# Altium schematic symbol library MySchLib.SchLib: 286 symbols (part 1 of 5)
Pins are listed as number, name and electrical type; pins without a type are passive.

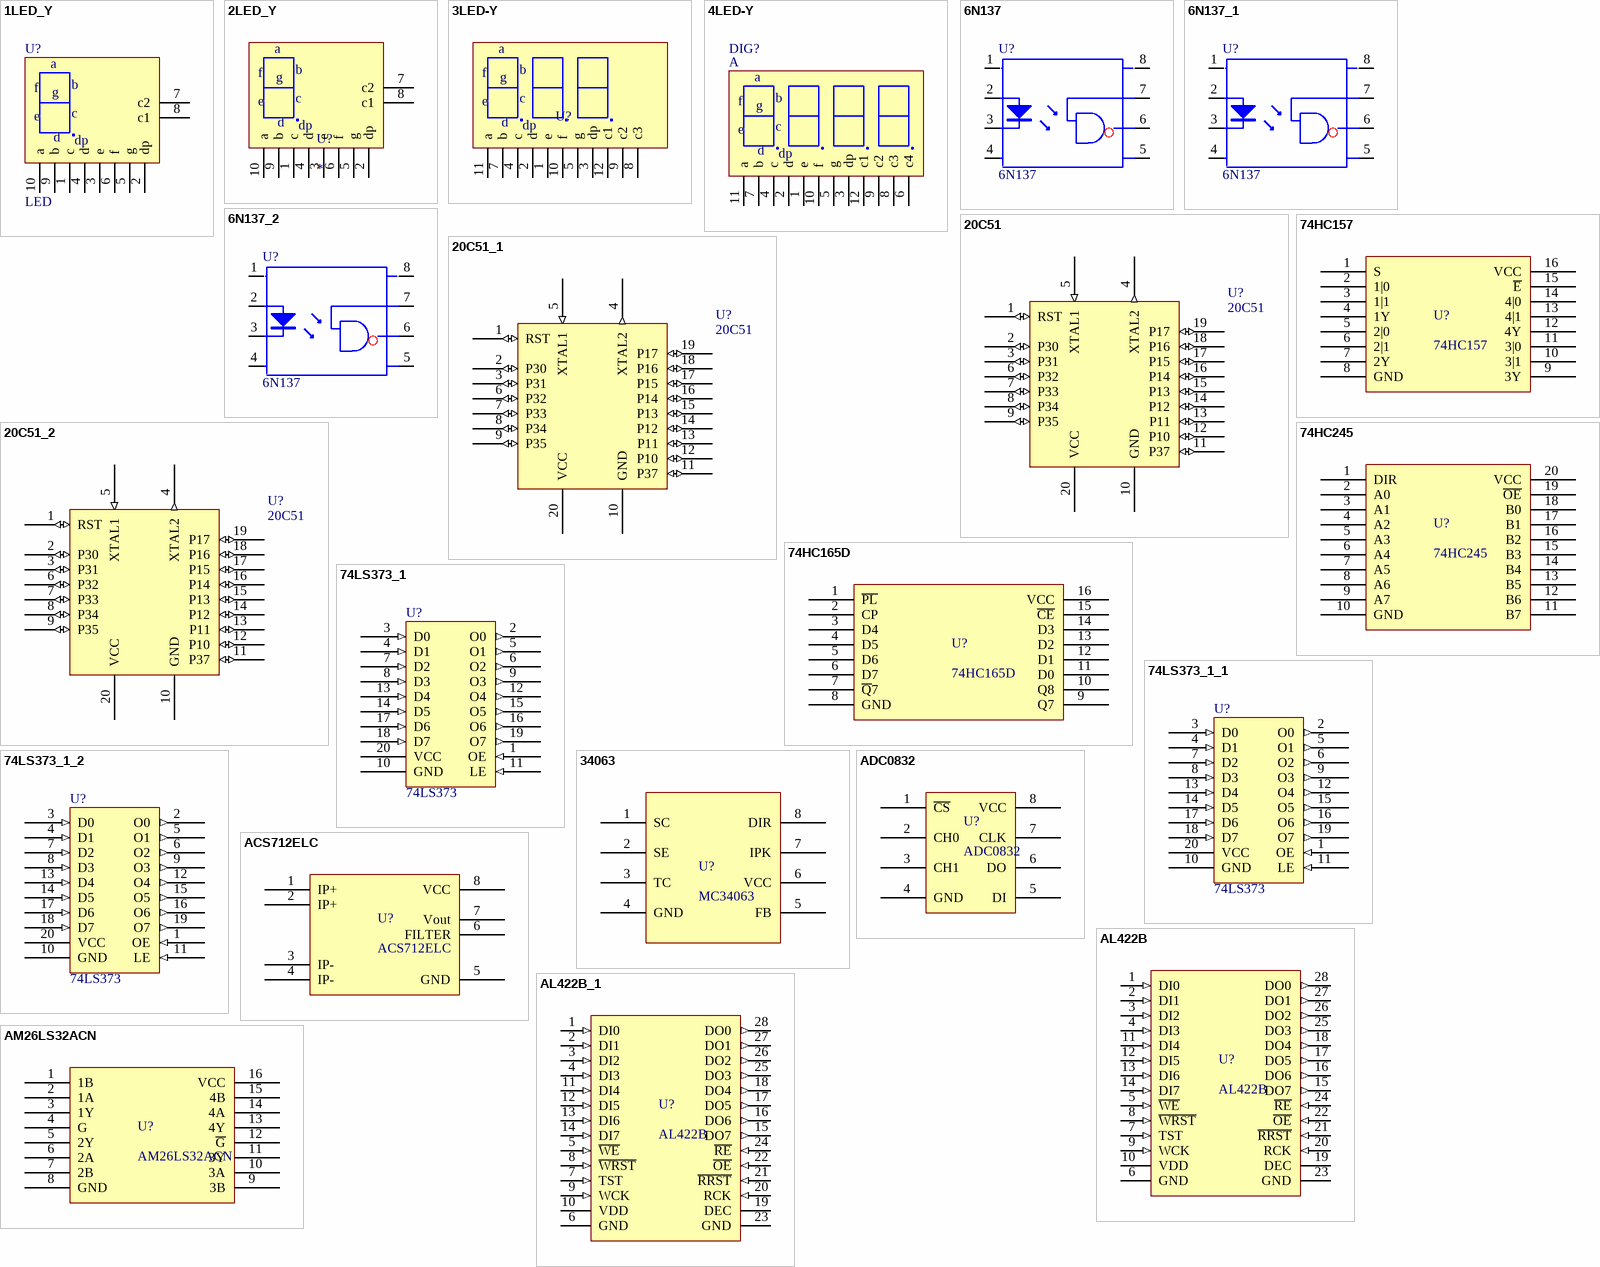
[diagram p0: symbols 1LED_Y to AM26LS32ACN]

## 1LED_Y
designator U?, comment LED
HX210561K / HX220561K
footprint LED-DIP10S-036
pins: 1 c, 2 dp, 3 e, 4 d, 5 g, 6 f, 7 c2, 8 c1, 9 b, 10 a

## 2LED_Y
designator U?
footprint LED2-DIP10S-056 (Footprint not found)
pins: 1 c, 2 dp, 3 e, 4 d, 5 g, 6 f, 7 c2, 8 c1, 9 b, 10 a

## 3LED-Y
designator U?
pins: 1 e, 2 d, 3 dp, 4 c, 5 g, 6 c4 hidden, 7 b, 8 c3, 9 c2, 10 f, 11 a, 12 c1

## 4LED-Y
designator DIG?, comment A
SR80561,SR70561
footprint LED-DIP12S-056
footprint LED-DIP12S-036
pins: 1 e, 2 d, 3 dp, 4 c, 5 g, 6 c4, 7 b, 8 c3, 9 c2, 10 f, 11 a, 12 c1
2 alternate drawings of the same symbol

## 6N137
designator U?
footprint PDIP8
pins: 1 A, 2 A, 3 K, 4 A, 5 A, 6 E, 7 C, 8 A
2 alternate drawings of the same symbol

## 6N137_1
designator U?, comment 6N137
footprint PDIP8
pins: 1 A, 2 A, 3 K, 4 A, 5 A, 6 E, 7 C, 8 A
2 alternate drawings of the same symbol

## 6N137_2
designator U?, comment 6N137
footprint PDIP8
pins: 1 A, 2 A, 3 K, 4 A, 5 A, 6 E, 7 C, 8 A
2 alternate drawings of the same symbol

## 20C51
designator U?
89C2051
footprint DIP20
footprint SOP-20
pins: 1 RST (io), 2 P30 (io), 3 P31 (io), 4 XTAL2 (out), 5 XTAL1 (in), 6 P32 (io), 7 P33 (io), 8 P34 (io), 9 P35 (io), 10 GND (power), 11 P37 (io), 12 P10 (io), 13 P11 (io), 14 P12 (io), 15 P13 (io), 16 P14 (io), 17 P15 (io), 18 P16 (io), 19 P17 (io), 20 VCC (power)
2 alternate drawings of the same symbol

## 20C51_1
designator U?, comment 20C51
89C2051
footprint DIP20
footprint SOP-20
pins: 1 RST (io), 2 P30 (io), 3 P31 (io), 4 XTAL2 (out), 5 XTAL1 (in), 6 P32 (io), 7 P33 (io), 8 P34 (io), 9 P35 (io), 10 GND (power), 11 P37 (io), 12 P10 (io), 13 P11 (io), 14 P12 (io), 15 P13 (io), 16 P14 (io), 17 P15 (io), 18 P16 (io), 19 P17 (io), 20 VCC (power)
2 alternate drawings of the same symbol

## 20C51_2
designator U?, comment 20C51
89C2051
footprint DIP20
footprint SOP-20
pins: 1 RST (io), 2 P30 (io), 3 P31 (io), 4 XTAL2 (out), 5 XTAL1 (in), 6 P32 (io), 7 P33 (io), 8 P34 (io), 9 P35 (io), 10 GND (power), 11 P37 (io), 12 P10 (io), 13 P11 (io), 14 P12 (io), 15 P13 (io), 16 P14 (io), 17 P15 (io), 18 P16 (io), 19 P17 (io), 20 VCC (power)
2 alternate drawings of the same symbol

## 74HC157
designator U?
footprint SSOP16
pins: 1 S, 2 1|0, 3 1|1, 4 1Y, 5 2|0, 6 2|1, 7 2Y, 8 GND, 9 3Y, 10 3|1, 11 3|0, 12 4Y, 13 4|1, 14 4|0, 15 ~{E}, 16 VCC

## 74HC165D
designator U?
footprint SOP-16 (FOR H1102NL)
pins: 1 ~{PL}, 2 CP, 3 D4, 4 D5, 5 D6, 6 D7, 7 ~{Q}7, 8 GND, 9 Q7, 10 Q8, 11 D0, 12 D1, 13 D2, 14 D3, 15 ~{CE}, 16 VCC

## 74HC245
designator U?
footprint SSOP20
footprint TSSOP20 (Footprint not found)
pins: 1 DIR, 2 A0, 3 A1, 4 A2, 5 A3, 6 A4, 7 A5, 8 A6, 9 A7, 10 GND, 11 B7, 12 B6, 13 B5, 14 B4, 15 B3, 16 B2, 17 B1, 18 B0, 19 ~{OE}, 20 VCC

## 74LS373_1
designator U?, comment 74LS373
footprint SOP-20
pins: 1 OE (in), 2 O0 (out), 3 D0 (in), 4 D1 (in), 5 O1 (out), 6 O2 (out), 7 D2 (in), 8 D3 (in), 9 O3 (out), 10 GND (power), 11 LE (in), 12 O4 (out), 13 D4 (in), 14 D5 (in), 15 O5 (out), 16 O6 (out), 17 D6 (in), 18 D7 (in), 19 O7 (out), 20 VCC (power)
2 alternate drawings of the same symbol

## 74LS373_1_1
designator U?, comment 74LS373
footprint SOP-20
pins: 1 OE (in), 2 O0 (out), 3 D0 (in), 4 D1 (in), 5 O1 (out), 6 O2 (out), 7 D2 (in), 8 D3 (in), 9 O3 (out), 10 GND (power), 11 LE (in), 12 O4 (out), 13 D4 (in), 14 D5 (in), 15 O5 (out), 16 O6 (out), 17 D6 (in), 18 D7 (in), 19 O7 (out), 20 VCC (power)
2 alternate drawings of the same symbol

## 74LS373_1_2
designator U?, comment 74LS373
footprint SOP-20
pins: 1 OE (in), 2 O0 (out), 3 D0 (in), 4 D1 (in), 5 O1 (out), 6 O2 (out), 7 D2 (in), 8 D3 (in), 9 O3 (out), 10 GND (power), 11 LE (in), 12 O4 (out), 13 D4 (in), 14 D5 (in), 15 O5 (out), 16 O6 (out), 17 D6 (in), 18 D7 (in), 19 O7 (out), 20 VCC (power)
2 alternate drawings of the same symbol

## 34063
designator U?, comment MC34063
footprint PDIP8
pins: 1 SC, 2 SE, 3 TC, 4 GND, 5 FB, 6 VCC, 7 IPK, 8 DIR

## ACS712ELC
designator U?
footprint SOIC8 (Footprint not found)
footprint SOP-8
pins: 1 IP+, 2 IP+, 3 IP-, 4 IP-, 5 GND, 6 FILTER, 7 Vout, 8 VCC

## ADC0832
designator U?
footprint DIP-8
pins: 1 ~{CS}, 2 CH0, 3 CH1, 4 GND, 5 DI, 6 DO, 7 CLK, 8 VCC

## AL422B
designator U?
footprint SOP-28 (Footprint not found)
pins: 1 DI0 (in), 2 DI1 (in), 3 DI2 (in), 4 DI3 (in), 5 ~{WE} (in), 6 GND (power), 7 TST (in), 8 ~{WRST} (in), 9 WCK (in), 10 VDD (power), 11 DI4 (in), 12 DI5 (in), 13 DI6 (in), 14 DI7 (in), 15 DO7 (out), 16 DO6 (out), 17 DO5 (out), 18 DO4 (out), 19 DEC (power), 20 RCK (in), 21 ~{RRST} (in), 22 ~{OE} (in), 23 GND (power), 24 ~{RE} (in), 25 DO3 (out), 26 DO2 (out), 27 DO1 (out), 28 DO0 (out)

## AL422B_1
designator U?, comment AL422B
footprint SOP-28 (Footprint not found)
pins: 1 DI0 (in), 2 DI1 (in), 3 DI2 (in), 4 DI3 (in), 5 ~{WE} (in), 6 GND (power), 7 TST (in), 8 ~{WRST} (in), 9 WCK (in), 10 VDD (power), 11 DI4 (in), 12 DI5 (in), 13 DI6 (in), 14 DI7 (in), 15 DO7 (out), 16 DO6 (out), 17 DO5 (out), 18 DO4 (out), 19 DEC (power), 20 RCK (in), 21 ~{RRST} (in), 22 ~{OE} (in), 23 GND (power), 24 ~{RE} (in), 25 DO3 (out), 26 DO2 (out), 27 DO1 (out), 28 DO0 (out)

## AM26LS32ACN
designator U?
pins: 1 1B, 2 1A, 3 1Y, 4 G, 5 2Y, 6 2A, 7 2B, 8 GND, 9 3B, 10 3A, 11 3Y, 12 ~{G}, 13 4Y, 14 4A, 15 4B, 16 VCC

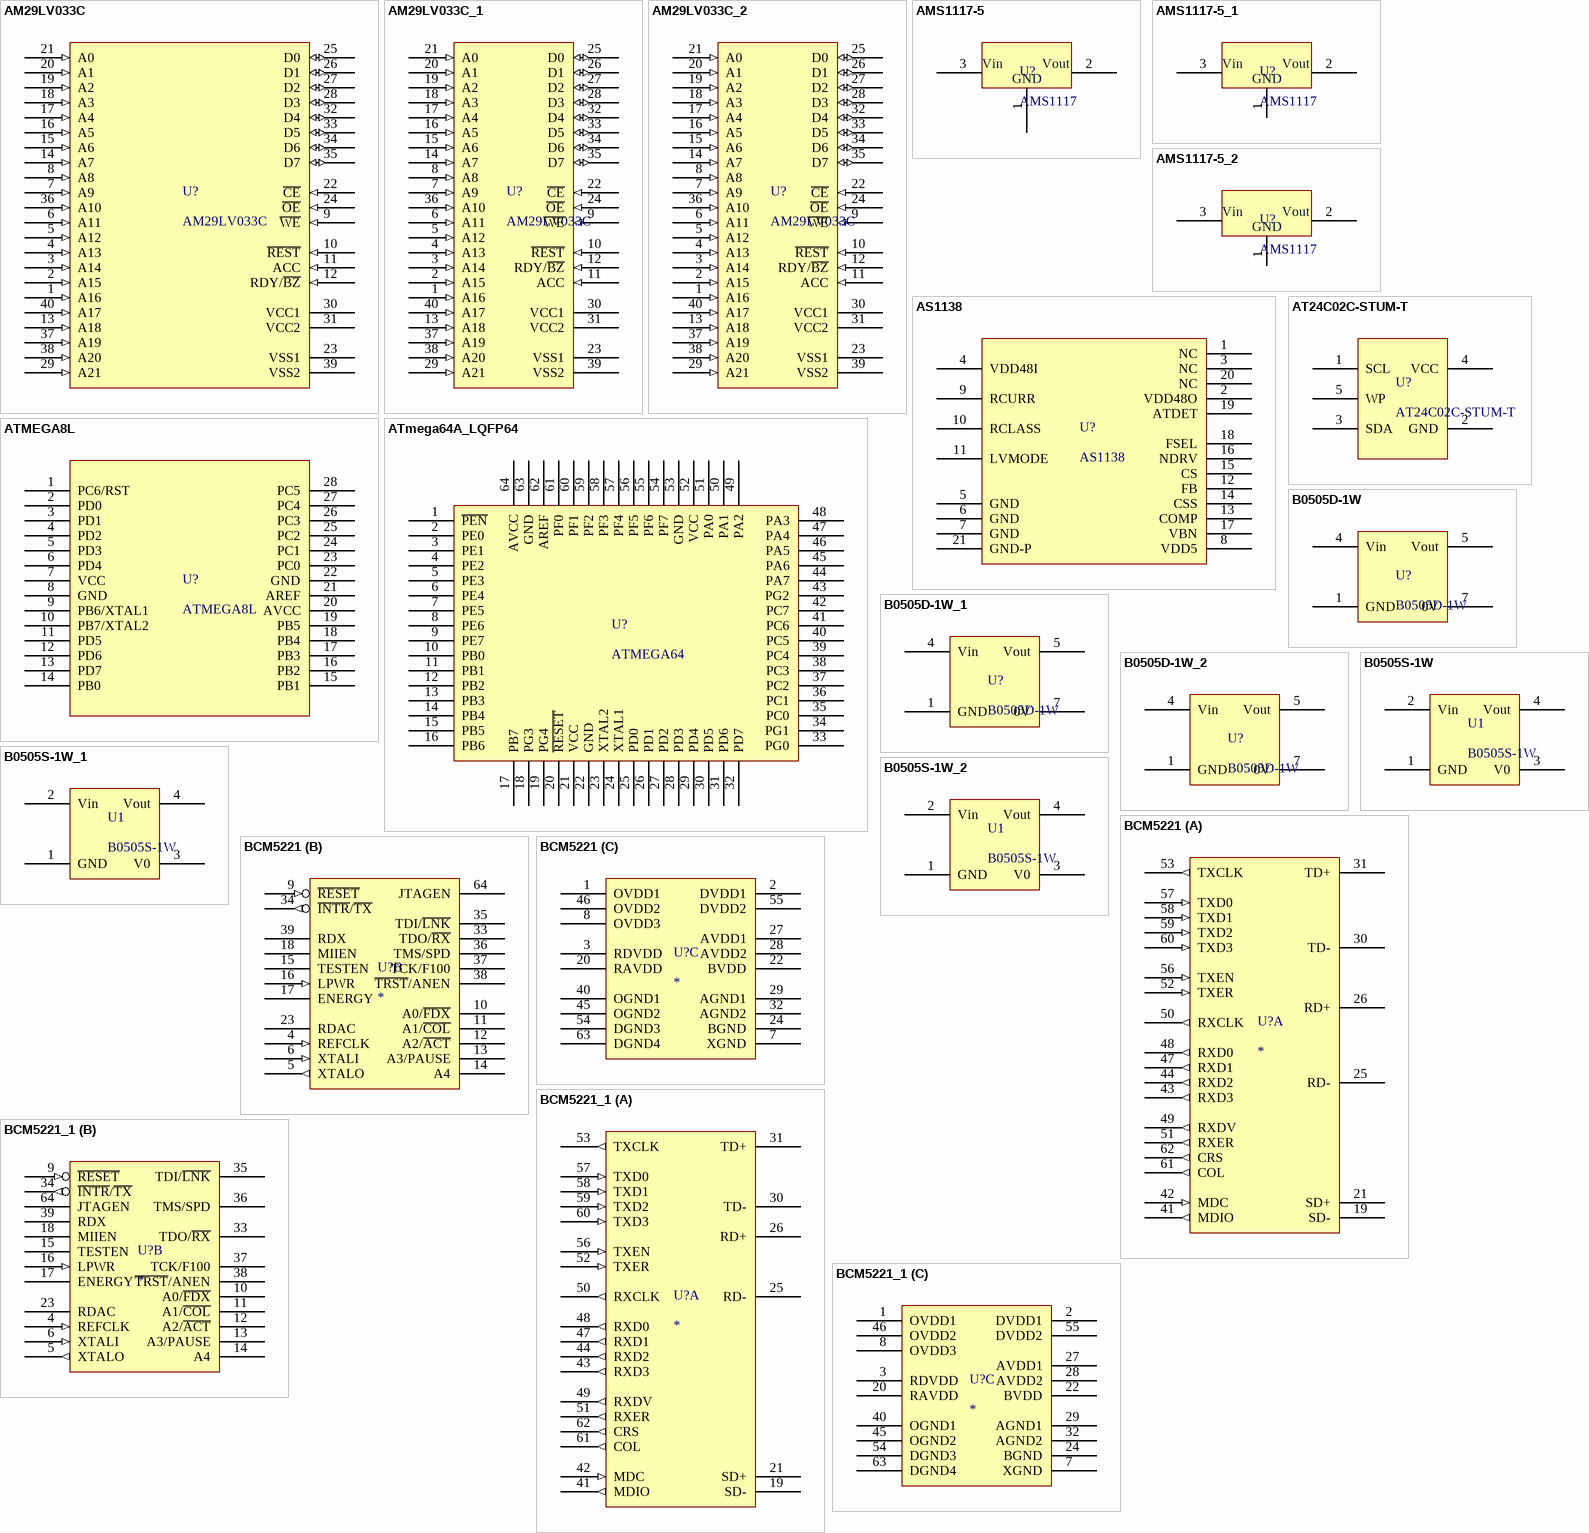
[diagram p1: symbols AM29LV033C to BCM5221_1]

## AM29LV033C
designator U?
footprint TS040 (Footprint not found)
footprint TSR040 (Footprint not found)
footprint FBD063 (Footprint not found)
pins: 1 A16 (in), 2 A15 (in), 3 A14 (in), 4 A13 (in), 5 A12 (in), 6 A11 (in), 7 A9 (in), 8 A8 (in), 9 ~{WE} (in), 10 ~{REST} (in), 11 ACC (in), 12 RDY/~{BZ} (in), 13 A18 (in), 14 A7 (in), 15 A6 (in), 16 A5 (in), 17 A4 (in), 18 A3 (in), 19 A2 (in), 20 A1 (in), 21 A0 (in), 22 ~{CE} (in), 23 VSS1 (power), 24 ~{OE} (in), 25 D0 (io), 26 D1 (io), 27 D2 (io), 28 D3 (io), 29 A21 (in), 30 VCC1 (power), 31 VCC2 (power), 32 D4 (io), 33 D5 (io), 34 D6 (io), 35 D7 (io), 36 A10 (in), 37 A19 (in), 38 A20 (in), 39 VSS2 (power), 40 A17 (in)

## AM29LV033C_1
designator U?, comment AM29LV033C
footprint TS040 (Footprint not found)
footprint TSR040 (Footprint not found)
footprint FBD063 (Footprint not found)
pins: 1 A16 (in), 2 A15 (in), 3 A14 (in), 4 A13 (in), 5 A12 (in), 6 A11 (in), 7 A9 (in), 8 A8 (in), 9 ~{WE} (in), 10 ~{REST} (in), 11 ACC (in), 12 RDY/~{BZ} (in), 13 A18 (in), 14 A7 (in), 15 A6 (in), 16 A5 (in), 17 A4 (in), 18 A3 (in), 19 A2 (in), 20 A1 (in), 21 A0 (in), 22 ~{CE} (in), 23 VSS1 (power), 24 ~{OE} (in), 25 D0 (io), 26 D1 (io), 27 D2 (io), 28 D3 (io), 29 A21 (in), 30 VCC1 (power), 31 VCC2 (power), 32 D4 (io), 33 D5 (io), 34 D6 (io), 35 D7 (io), 36 A10 (in), 37 A19 (in), 38 A20 (in), 39 VSS2 (power), 40 A17 (in)

## AM29LV033C_2
designator U?, comment AM29LV033C
footprint TS040 (Footprint not found)
footprint TSR040 (Footprint not found)
footprint FBD063 (Footprint not found)
pins: 1 A16 (in), 2 A15 (in), 3 A14 (in), 4 A13 (in), 5 A12 (in), 6 A11 (in), 7 A9 (in), 8 A8 (in), 9 ~{WE} (in), 10 ~{REST} (in), 11 ACC (in), 12 RDY/~{BZ} (in), 13 A18 (in), 14 A7 (in), 15 A6 (in), 16 A5 (in), 17 A4 (in), 18 A3 (in), 19 A2 (in), 20 A1 (in), 21 A0 (in), 22 ~{CE} (in), 23 VSS1 (power), 24 ~{OE} (in), 25 D0 (io), 26 D1 (io), 27 D2 (io), 28 D3 (io), 29 A21 (in), 30 VCC1 (power), 31 VCC2 (power), 32 D4 (io), 33 D5 (io), 34 D6 (io), 35 D7 (io), 36 A10 (in), 37 A19 (in), 38 A20 (in), 39 VSS2 (power), 40 A17 (in)

## AMS1117-5
designator U?, comment AMS1117
footprint SOT-223
pins: 1 GND, 2 Vout, 3 Vin

## AMS1117-5_1
designator U?, comment AMS1117
footprint SOT-223
pins: 1 GND, 2 Vout, 3 Vin

## AMS1117-5_2
designator U?, comment AMS1117
footprint SOT-223
pins: 1 GND, 2 Vout, 3 Vin

## AS1138
designator U?
footprint QFN20
pins: 1 NC, 2 VDD48O, 3 NC, 4 VDD48I, 5 GND, 6 GND, 7 GND, 8 VDD5, 9 RCURR, 10 RCLASS, 11 LVMODE, 12 FB, 13 COMP, 14 CSS, 15 CS, 16 NDRV, 17 VBN, 18 FSEL, 19 ATDET, 20 NC, 21 GND-P

## AT24C02C-STUM-T
designator U?
footprint SOT-23-5
pins: 1 SCL, 2 GND, 3 SDA, 4 VCC, 5 WP

## ATMEGA8L
designator U?
footprint PDIP28 (Footprint not found)
pins: 1 PC6/RST, 2 PD0, 3 PD1, 4 PD2, 5 PD3, 6 PD4, 7 VCC, 8 GND, 9 PB6/XTAL1, 10 PB7/XTAL2, 11 PD5, 12 PD6, 13 PD7, 14 PB0, 15 PB1, 16 PB2, 17 PB3, 18 PB4, 19 PB5, 20 AVCC, 21 AREF, 22 GND, 23 PC0, 24 PC1, 25 PC2, 26 PC3, 27 PC4, 28 PC5

## ATmega64A_LQFP64
designator U?, comment ATMEGA64
footprint QUAD64
pins: 1 ~{PEN}, 2 PE0, 3 PE1, 4 PE2, 5 PE3, 6 PE4, 7 PE5, 8 PE6, 9 PE7, 10 PB0, 11 PB1, 12 PB2, 13 PB3, 14 PB4, 15 PB5, 16 PB6, 17 PB7, 18 PG3, 19 PG4, 20 ~{RESET}, 21 VCC, 22 GND, 23 XTAL2, 24 XTAL1, 25 PD0, 26 PD1, 27 PD2, 28 PD3, 29 PD4, 30 PD5, 31 PD6, 32 PD7, 33 PG0, 34 PG1, 35 PC0, 36 PC1, 37 PC2, 38 PC3, 39 PC4, 40 PC5, 41 PC6, 42 PC7, 43 PG2, 44 PA7, 45 PA6, 46 PA5, 47 PA4, 48 PA3, 49 PA2, 50 PA1, 51 PA0, 52 VCC, 53 GND, 54 PF7, 55 PF6, 56 PF5, 57 PF4, 58 PF3, 59 PF2, 60 PF1, 61 PF0, 62 AREF, 63 GND, 64 AVCC

## B0505D-1W
designator U?
footprint B0505D-1W
pins: 1 GND, 4 Vin, 5 Vout, 7 0V

## B0505D-1W_1
designator U?, comment B0505D-1W
footprint B0505D-1W
pins: 1 GND, 4 Vin, 5 Vout, 7 0V

## B0505D-1W_2
designator U?, comment B0505D-1W
footprint B0505D-1W
pins: 1 GND, 4 Vin, 5 Vout, 7 0V

## B0505S-1W
designator U1
footprint B0505S-1W
pins: 1 GND, 2 Vin, 3 V0, 4 Vout

## B0505S-1W_1
designator U1, comment B0505S-1W
footprint B0505S-1W
pins: 1 GND, 2 Vin, 3 V0, 4 Vout

## B0505S-1W_2
designator U1, comment B0505S-1W
footprint B0505S-1W
pins: 1 GND, 2 Vin, 3 V0, 4 Vout

## BCM5221
designator U?
footprint TQFP-64 (Footprint not found)
part A pins: 19 SD-, 21 SD+, 25 RD-, 26 RD+, 30 TD-, 31 TD+, 41 MDIO (out), 42 MDC (in), 43 RXD3 (out), 44 RXD2 (out), 47 RXD1 (out), 48 RXD0 (out), 49 RXDV (out), 50 RXCLK (out), 51 RXER (out), 52 TXER (in), 53 TXCLK (out), 56 TXEN (in), 57 TXD0 (in), 58 TXD1 (in), 59 TXD2 (in), 60 TXD3 (in), 61 COL (out), 62 CRS (out)
part B pins: 4 REFCLK (in), 5 XTALO (out), 6 XTALI (in), 9 ~{RESET} (in), 10 A0/~{FDX}, 11 A1/~{COL}, 12 A2/~{ACT}, 13 A3/PAUSE, 14 A4, 15 TESTEN, 16 LPWR (in), 17 ENERGY, 18 MIIEN, 23 RDAC, 33 TDO/~{RX}, 34 ~{INTR}/~{TX} (out), 35 TDI/~{LNK}, 36 TMS/SPD, 37 TCK/F100, 38 ~{TRST}/ANEN, 39 RDX, 64 JTAGEN
part C pins: 1 OVDD1 (power), 2 DVDD1 (power), 3 RDVDD (power), 7 XGND (power), 8 OVDD3 (power), 20 RAVDD (power), 22 BVDD (power), 24 BGND (power), 27 AVDD1 (power), 28 AVDD2 (power), 29 AGND1 (power), 32 AGND2 (power), 40 OGND1 (power), 45 OGND2 (power), 46 OVDD2 (power), 54 DGND3 (power), 55 DVDD2 (power), 63 DGND4 (power)

## BCM5221_1
designator U?
footprint TQFP-64 (Footprint not found)
part A pins: 19 SD-, 21 SD+, 25 RD-, 26 RD+, 30 TD-, 31 TD+, 41 MDIO (out), 42 MDC (in), 43 RXD3 (out), 44 RXD2 (out), 47 RXD1 (out), 48 RXD0 (out), 49 RXDV (out), 50 RXCLK (out), 51 RXER (out), 52 TXER (in), 53 TXCLK (out), 56 TXEN (in), 57 TXD0 (in), 58 TXD1 (in), 59 TXD2 (in), 60 TXD3 (in), 61 COL (out), 62 CRS (out)
part B pins: 4 REFCLK (in), 5 XTALO (out), 6 XTALI (in), 9 ~{RESET} (in), 10 A0/~{FDX}, 11 A1/~{COL}, 12 A2/~{ACT}, 13 A3/PAUSE, 14 A4, 15 TESTEN, 16 LPWR (in), 17 ENERGY, 18 MIIEN, 23 RDAC, 33 TDO/~{RX}, 34 ~{INTR}/~{TX} (out), 35 TDI/~{LNK}, 36 TMS/SPD, 37 TCK/F100, 38 ~{TRST}/ANEN, 39 RDX, 64 JTAGEN
part C pins: 1 OVDD1 (power), 2 DVDD1 (power), 3 RDVDD (power), 7 XGND (power), 8 OVDD3 (power), 20 RAVDD (power), 22 BVDD (power), 24 BGND (power), 27 AVDD1 (power), 28 AVDD2 (power), 29 AGND1 (power), 32 AGND2 (power), 40 OGND1 (power), 45 OGND2 (power), 46 OVDD2 (power), 54 DGND3 (power), 55 DVDD2 (power), 63 DGND4 (power)

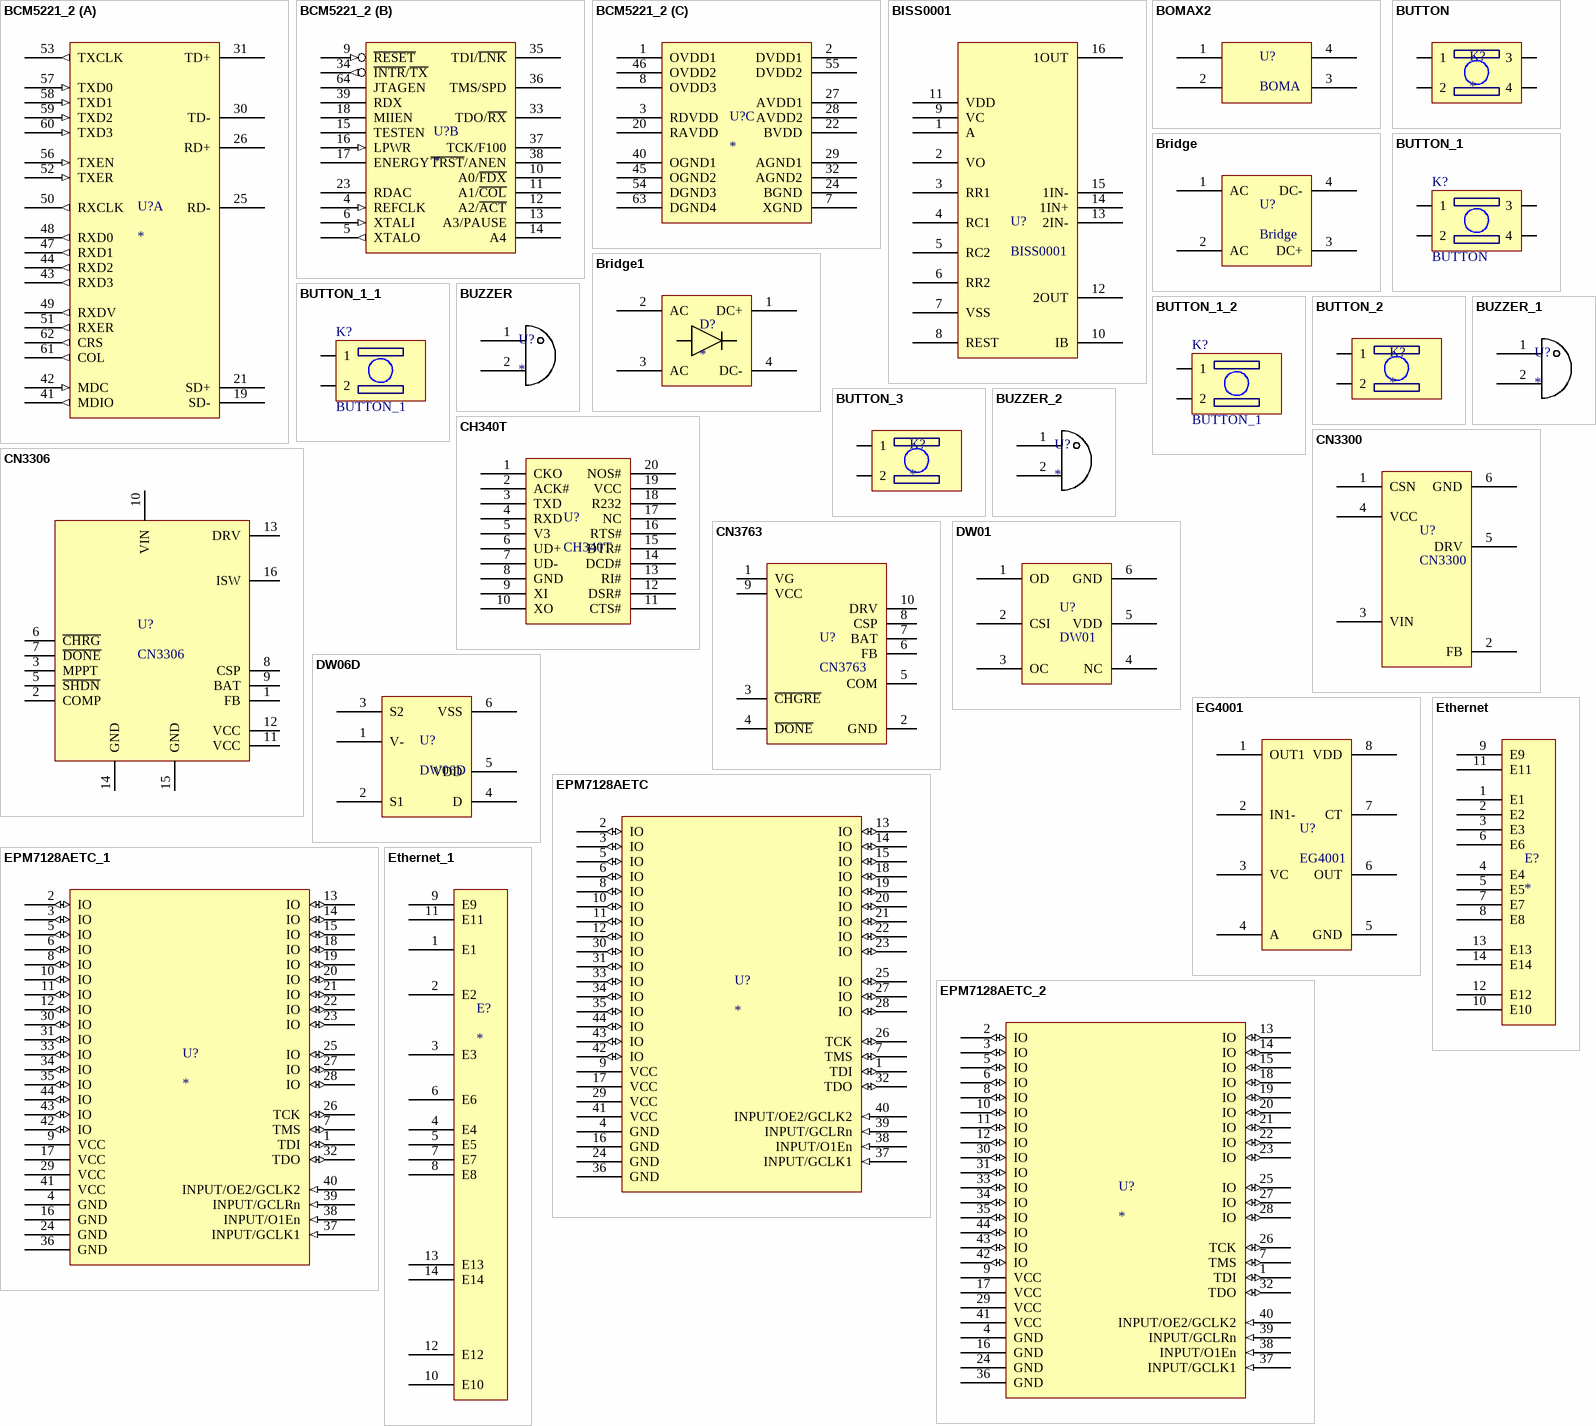
[diagram p2: symbols BCM5221_2 to Ethernet_1]

## BCM5221_2
designator U?
footprint TQFP-64 (Footprint not found)
part A pins: 19 SD-, 21 SD+, 25 RD-, 26 RD+, 30 TD-, 31 TD+, 41 MDIO (out), 42 MDC (in), 43 RXD3 (out), 44 RXD2 (out), 47 RXD1 (out), 48 RXD0 (out), 49 RXDV (out), 50 RXCLK (out), 51 RXER (out), 52 TXER (in), 53 TXCLK (out), 56 TXEN (in), 57 TXD0 (in), 58 TXD1 (in), 59 TXD2 (in), 60 TXD3 (in), 61 COL (out), 62 CRS (out)
part B pins: 4 REFCLK (in), 5 XTALO (out), 6 XTALI (in), 9 ~{RESET} (in), 10 A0/~{FDX}, 11 A1/~{COL}, 12 A2/~{ACT}, 13 A3/PAUSE, 14 A4, 15 TESTEN, 16 LPWR (in), 17 ENERGY, 18 MIIEN, 23 RDAC, 33 TDO/~{RX}, 34 ~{INTR}/~{TX} (out), 35 TDI/~{LNK}, 36 TMS/SPD, 37 TCK/F100, 38 ~{TRST}/ANEN, 39 RDX, 64 JTAGEN
part C pins: 1 OVDD1 (power), 2 DVDD1 (power), 3 RDVDD (power), 7 XGND (power), 8 OVDD3 (power), 20 RAVDD (power), 22 BVDD (power), 24 BGND (power), 27 AVDD1 (power), 28 AVDD2 (power), 29 AGND1 (power), 32 AGND2 (power), 40 OGND1 (power), 45 OGND2 (power), 46 OVDD2 (power), 54 DGND3 (power), 55 DVDD2 (power), 63 DGND4 (power)

## BISS0001
designator U?
footprint SSOP16
pins: 1 A, 2 VO, 3 RR1, 4 RC1, 5 RC2, 6 RR2, 7 VSS, 8 REST, 9 VC, 10 IB, 11 VDD, 12 2OUT, 13 2IN-, 14 1IN+, 15 1IN-, 16 1OUT

## BOMAX2
designator U?, comment BOMA
footprint DIP4
footprint PDIP4
pins: 1, 2, 3, 4

## Bridge
designator U?
DB157S
footprint BGSOP4
pins: 1 AC, 2 AC, 3 DC+, 4 DC-

## Bridge1
designator D?
KBL608
footprint KBL6
pins: 1 DC+, 2 AC, 3 AC, 4 DC-

## BUTTON
designator K?
footprint BUTTON6-6 (Footprint not found)
pins: 1, 2, 3, 4

## BUTTON_1
designator K?, comment BUTTON
footprint BUTTON6-6 (Footprint not found)
footprint BUTTON1 (Footprint not found)
pins: 1, 2, 3, 4

## BUTTON_1_1
designator K?, comment BUTTON_1
footprint BUTTON6-6 (Footprint not found)
footprint BUTTON1 (Footprint not found)
pins: 1, 2, 3 hidden to 1, 4 hidden to 2

## BUTTON_1_2
designator K?, comment BUTTON_1
footprint BUTTON6-6 (Footprint not found)
footprint BUTTON1 (Footprint not found)
pins: 1, 2, 3 hidden to 1, 4 hidden to 2

## BUTTON_2
designator K?
footprint BUTTON6-6 (Footprint not found)
pins: 1, 2

## BUTTON_3
designator K?
footprint BUTTON6-6 (Footprint not found)
pins: 1, 2

## BUZZER
designator U?
footprint BUZZER-12-7 (Footprint not found)
pins: 1 (power), 2 (power)

## BUZZER_1
designator U?
footprint BUZZER-12-7 (Footprint not found)
pins: 1 (power), 2 (power)

## BUZZER_2
designator U?
footprint BUZZER-12-7 (Footprint not found)
pins: 1 (power), 2 (power)

## CH340T
designator U?
footprint SSOP20
pins: 1 CKO, 2 ACK#, 3 TXD, 4 RXD, 5 V3, 6 UD+, 7 UD-, 8 GND, 9 XI, 10 XO, 11 CTS#, 12 DSR#, 13 RI#, 14 DCD#, 15 DTR#, 16 RTS#, 17 NC, 18 R232, 19 VCC, 20 NOS#

## CN3300
designator U?
footprint SOT-23-6
pins: 1 CSN, 2 FB, 3 VIN, 4 VCC, 5 DRV, 6 GND

## CN3306
designator U?
footprint TSSOP16
pins: 1 FB, 2 COMP, 3 MPPT, 5 ~{SHDN}, 6 ~{CHRG}, 7 ~{DONE}, 8 CSP, 9 BAT, 10 VIN, 11 VCC, 12 VCC, 13 DRV, 14 GND, 15 GND, 16 ISW

## CN3763
designator U?
footprint SSOP10 (Footprint not found)
pins: 1 VG, 2 GND, 3 ~{CHGRE}, 4 ~{DONE}, 5 COM, 6 FB, 7 BAT, 8 CSP, 9 VCC, 10 DRV

## DW01
designator U?
footprint SOT-23-6
pins: 1 OD, 2 CSI, 3 OC, 4 NC, 5 VDD, 6 GND

## DW06D
designator U?
footprint SOT-23-6
pins: 1 V-, 2 S1, 3 S2, 4 D, 5 VDD, 6 VSS

## EG4001
designator U?
footprint SOP-8
pins: 1 OUT1, 2 IN1-, 3 VC, 4 A, 5 GND, 6 OUT, 7 CT, 8 VDD

## EPM7128AETC
designator U?
footprint TQFP-44 (Footprint not found)
footprint PLCC-44 (Footprint not found)
pins: 1 TDI (io), 2 IO (io), 3 IO (io), 4 GND (power), 5 IO (io), 6 IO (io), 7 TMS (io), 8 IO (io), 9 VCC (power), 10 IO (io), 11 IO (io), 12 IO (io), 13 IO (io), 14 IO (io), 15 IO (io), 16 GND (power), 17 VCC (power), 18 IO (io), 19 IO (io), 20 IO (io), 21 IO (io), 22 IO (io), 23 IO (io), 24 GND (power), 25 IO (io), 26 TCK (io), 27 IO (io), 28 IO (io), 29 VCC (power), 30 IO (io), 31 IO (io), 32 TDO (io), 33 IO (io), 34 IO (io), 35 IO (io), 36 GND (power), 37 INPUT/GCLK1 (in), 38 INPUT/O1En (in), 39 INPUT/GCLRn (in), 40 INPUT/OE2/GCLK2 (in), 41 VCC (power), 42 IO (io), 43 IO (io), 44 IO (io)

## EPM7128AETC_1
designator U?
footprint TQFP-44 (Footprint not found)
footprint PLCC-44 (Footprint not found)
pins: 1 TDI (io), 2 IO (io), 3 IO (io), 4 GND (power), 5 IO (io), 6 IO (io), 7 TMS (io), 8 IO (io), 9 VCC (power), 10 IO (io), 11 IO (io), 12 IO (io), 13 IO (io), 14 IO (io), 15 IO (io), 16 GND (power), 17 VCC (power), 18 IO (io), 19 IO (io), 20 IO (io), 21 IO (io), 22 IO (io), 23 IO (io), 24 GND (power), 25 IO (io), 26 TCK (io), 27 IO (io), 28 IO (io), 29 VCC (power), 30 IO (io), 31 IO (io), 32 TDO (io), 33 IO (io), 34 IO (io), 35 IO (io), 36 GND (power), 37 INPUT/GCLK1 (in), 38 INPUT/O1En (in), 39 INPUT/GCLRn (in), 40 INPUT/OE2/GCLK2 (in), 41 VCC (power), 42 IO (io), 43 IO (io), 44 IO (io)

## EPM7128AETC_2
designator U?
footprint TQFP-44 (Footprint not found)
footprint PLCC-44 (Footprint not found)
pins: 1 TDI (io), 2 IO (io), 3 IO (io), 4 GND (power), 5 IO (io), 6 IO (io), 7 TMS (io), 8 IO (io), 9 VCC (power), 10 IO (io), 11 IO (io), 12 IO (io), 13 IO (io), 14 IO (io), 15 IO (io), 16 GND (power), 17 VCC (power), 18 IO (io), 19 IO (io), 20 IO (io), 21 IO (io), 22 IO (io), 23 IO (io), 24 GND (power), 25 IO (io), 26 TCK (io), 27 IO (io), 28 IO (io), 29 VCC (power), 30 IO (io), 31 IO (io), 32 TDO (io), 33 IO (io), 34 IO (io), 35 IO (io), 36 GND (power), 37 INPUT/GCLK1 (in), 38 INPUT/O1En (in), 39 INPUT/GCLRn (in), 40 INPUT/OE2/GCLK2 (in), 41 VCC (power), 42 IO (io), 43 IO (io), 44 IO (io)

## Ethernet
designator E?
footprint ETNET14 (Footprint not found)
pins: 1 E1 (power), 2 E2, 3 E3, 4 E4, 5 E5, 6 E6, 7 E7, 8 E8, 9 E9, 10 E10, 11 E11, 12 E12, 13 E13, 14 E14

## Ethernet_1
designator E?
footprint ETNET14 (Footprint not found)
pins: 1 E1 (power), 2 E2, 3 E3, 4 E4, 5 E5, 6 E6, 7 E7, 8 E8, 9 E9, 10 E10, 11 E11, 12 E12, 13 E13, 14 E14

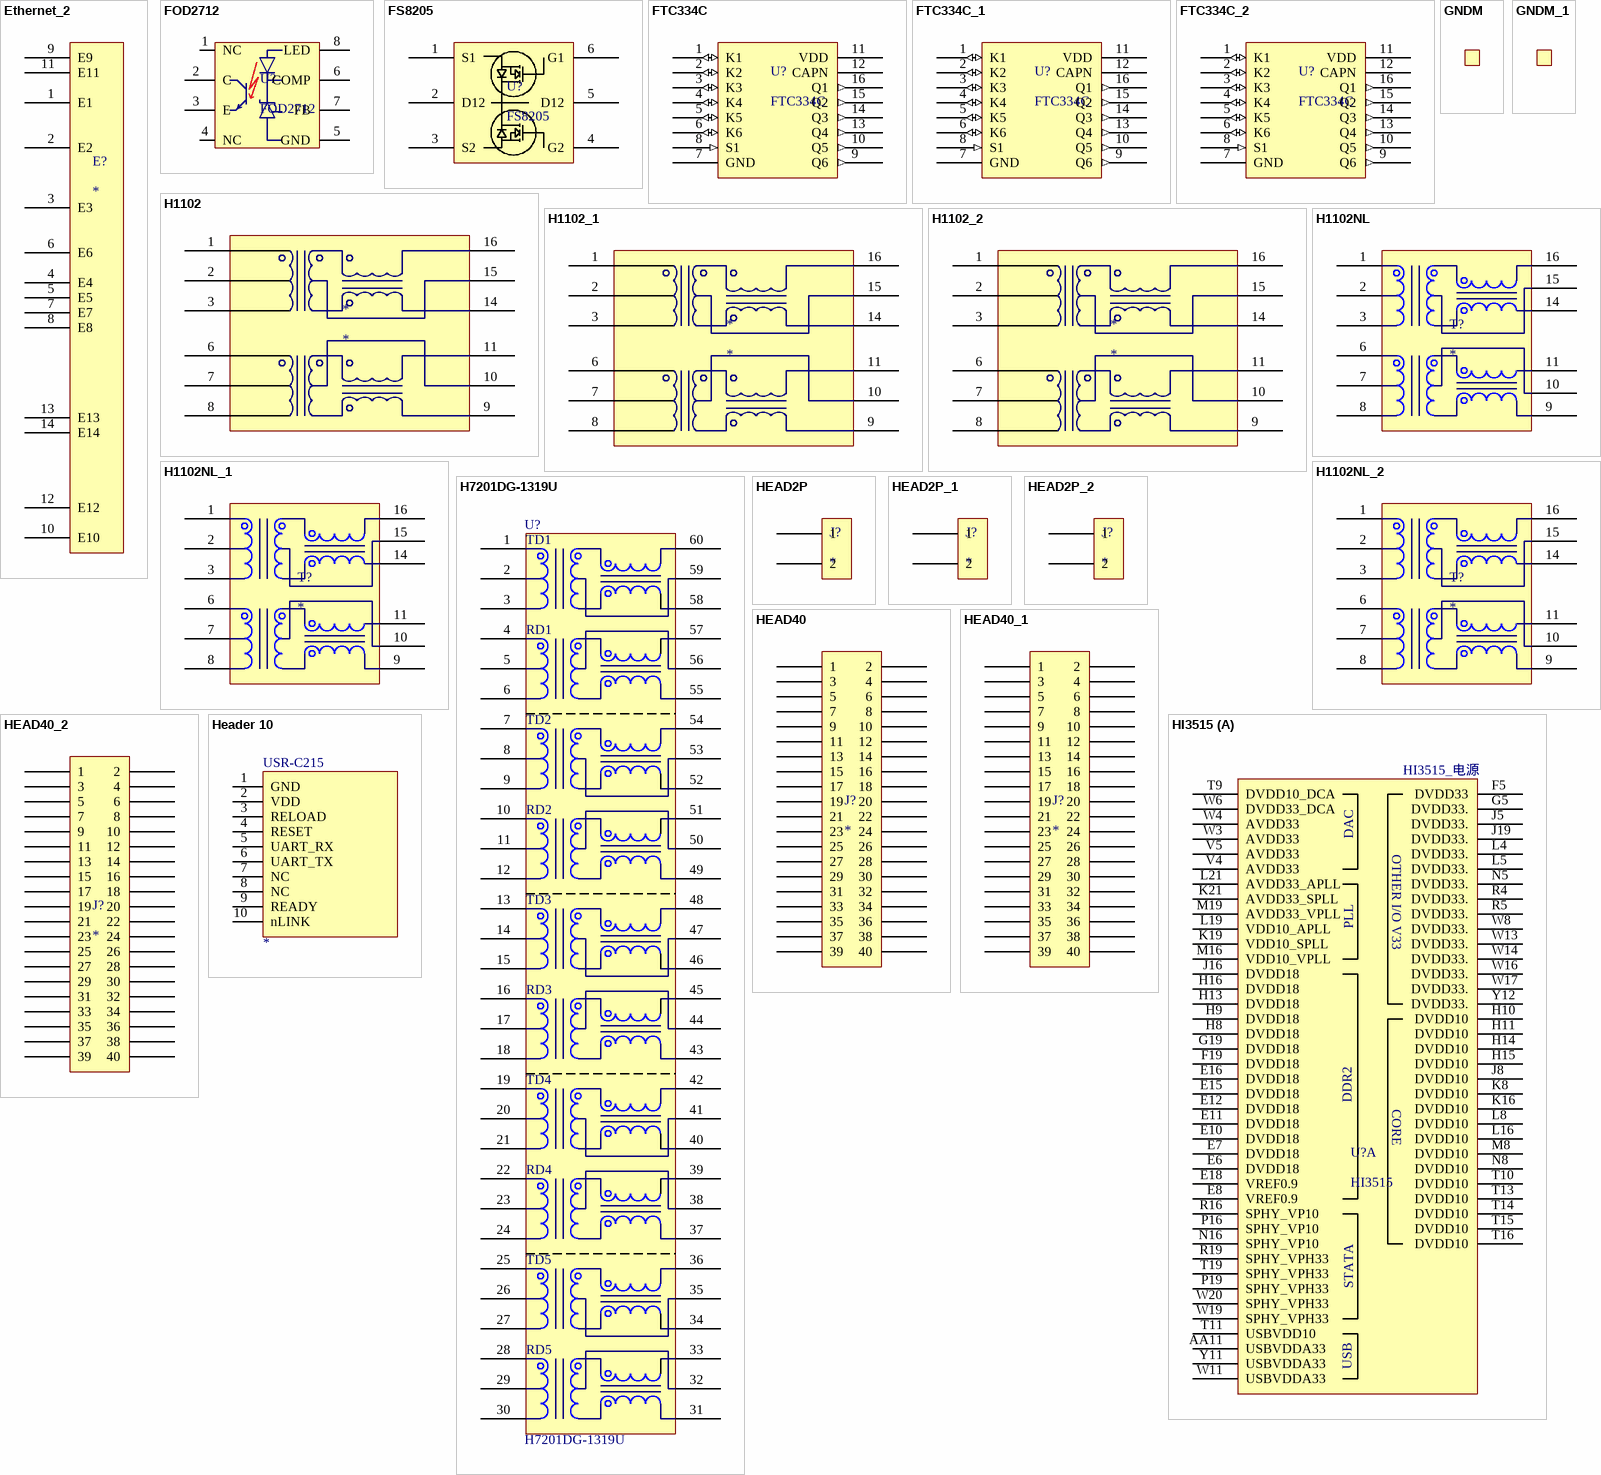
[diagram p3: symbols Ethernet_2 to HI3515]

## Ethernet_2
designator E?
footprint ETNET14 (Footprint not found)
pins: 1 E1 (power), 2 E2, 3 E3, 4 E4, 5 E5, 6 E6, 7 E7, 8 E8, 9 E9, 10 E10, 11 E11, 12 E12, 13 E13, 14 E14

## FOD2712
designator U?
footprint SOP-8
pins: 1 NC, 2 C, 3 E, 4 NC, 5 GND, 6 COMP, 7 FB, 8 LED

## FS8205
designator U?
footprint SOT-23-6
pins: 1 S1, 2 D12, 3 S2, 4 G2, 5 D12, 6 G1

## FTC334C
designator U?
footprint SSOP16
pins: 1 K1 (io), 2 K2 (io), 3 K3 (io), 4 K4 (io), 5 K5 (io), 6 K6 (io), 7 GND (power), 8 S1 (in), 9 Q6 (out), 10 Q5 (out), 11 VDD (power), 12 CAPN, 13 Q4 (out), 14 Q3 (out), 15 Q2 (out), 16 Q1 (out)

## FTC334C_1
designator U?, comment FTC334C
footprint SSOP16
pins: 1 K1 (io), 2 K2 (io), 3 K3 (io), 4 K4 (io), 5 K5 (io), 6 K6 (io), 7 GND (power), 8 S1 (in), 9 Q6 (out), 10 Q5 (out), 11 VDD (power), 12 CAPN, 13 Q4 (out), 14 Q3 (out), 15 Q2 (out), 16 Q1 (out)

## FTC334C_2
designator U?, comment FTC334C
footprint SSOP16
pins: 1 K1 (io), 2 K2 (io), 3 K3 (io), 4 K4 (io), 5 K5 (io), 6 K6 (io), 7 GND (power), 8 S1 (in), 9 Q6 (out), 10 Q5 (out), 11 VDD (power), 12 CAPN, 13 Q4 (out), 14 Q3 (out), 15 Q2 (out), 16 Q1 (out)

## GNDM
designator ?
footprint MARKS1

## GNDM_1
designator ?
footprint MARKS1

## H1102
designator *
pins: 1 D1, 2 D2, 3 D3, 6 D6, 7 D7, 8 D8, 9 D9, 10 D10, 11 D11, 14 D14, 15 D15, 16 D16

## H1102_1
designator *
pins: 1 D1, 2 D2, 3 D3, 6 D6, 7 D7, 8 D8, 9 D9, 10 D10, 11 D11, 14 D14, 15 D15, 16 D16

## H1102_2
designator *
pins: 1 D1, 2 D2, 3 D3, 6 D6, 7 D7, 8 D8, 9 D9, 10 D10, 11 D11, 14 D14, 15 D15, 16 D16

## H1102NL
designator T?
footprint SOP-16 (Footprint not found)
pins: 1 (power), 2 (power), 3 (power), 6 (power), 7 (power), 8 (power), 9 (power), 10 (power), 11 (power), 14 (power), 15 (power), 16 (power)

## H1102NL_1
designator T?
footprint SOP-16 (Footprint not found)
pins: 1 (power), 2 (power), 3 (power), 6 (power), 7 (power), 8 (power), 9 (power), 10 (power), 11 (power), 14 (power), 15 (power), 16 (power)

## H1102NL_2
designator T?
footprint SOP-16 (Footprint not found)
pins: 1 (power), 2 (power), 3 (power), 6 (power), 7 (power), 8 (power), 9 (power), 10 (power), 11 (power), 14 (power), 15 (power), 16 (power)

## H7201DG-1319U
designator U?
footprint H7201DG-1319U
pins: 1 (power), 2 (power), 3 (power), 4, 5, 6, 7, 8, 9, 10, 11, 12, 13, 14, 15, 16, 17, 18, 19, 20, 21, 22, 23, 24, 25, 26, 27, 28, 29, 30, 31, 32, 33, 34, 35, 36, 37, 38, 39, 40, 41, 42, 43, 44, 45, 46, 47, 48, 49, 50, 51, 52, 53, 54, 55, 56, 57, 58, 59, 60
text: TD1; RD1; TD2; RD2; TD3; RD3; TD4; RD4; TD5; RD5

## HEAD2P
designator J?
footprint MKDS15-2
pins: 1, 2

## HEAD2P_1
designator J?
footprint MKDS15-2
pins: 1, 2

## HEAD2P_2
designator J?
footprint MKDS15-2
pins: 1, 2

## HEAD40
designator J?
FOR FFC-40
footprint FFC0.5-40P
pins: 1, 2, 3, 4, 5, 6, 7, 8, 9, 10, 11, 12, 13, 14, 15, 16, 17, 18, 19, 20, 21, 22, 23, 24, 25, 26, 27, 28, 29, 30, 31, 32, 33, 34, 35, 36, 37, 38, 39, 40

## HEAD40_1
designator J?
FOR FFC-40
footprint FFC0.5-40P
pins: 1, 2, 3, 4, 5, 6, 7, 8, 9, 10, 11, 12, 13, 14, 15, 16, 17, 18, 19, 20, 21, 22, 23, 24, 25, 26, 27, 28, 29, 30, 31, 32, 33, 34, 35, 36, 37, 38, 39, 40

## HEAD40_2
designator J?
FOR FFC-40
footprint FFC0.5-40P
pins: 1, 2, 3, 4, 5, 6, 7, 8, 9, 10, 11, 12, 13, 14, 15, 16, 17, 18, 19, 20, 21, 22, 23, 24, 25, 26, 27, 28, 29, 30, 31, 32, 33, 34, 35, 36, 37, 38, 39, 40

## Header 10
designator USR-C215
Header, 10-Pin; LatestRevisionDate: *; LatestRevisionNote: *; Publisher: *
footprint DIP2.0*1-10-M
pins: 1 GND, 2 VDD, 3 RELOAD, 4 RESET, 5 UART_RX, 6 UART_TX, 7 NC, 8 NC, 9 READY, 10 nLINK
2 alternate drawings of the same symbol

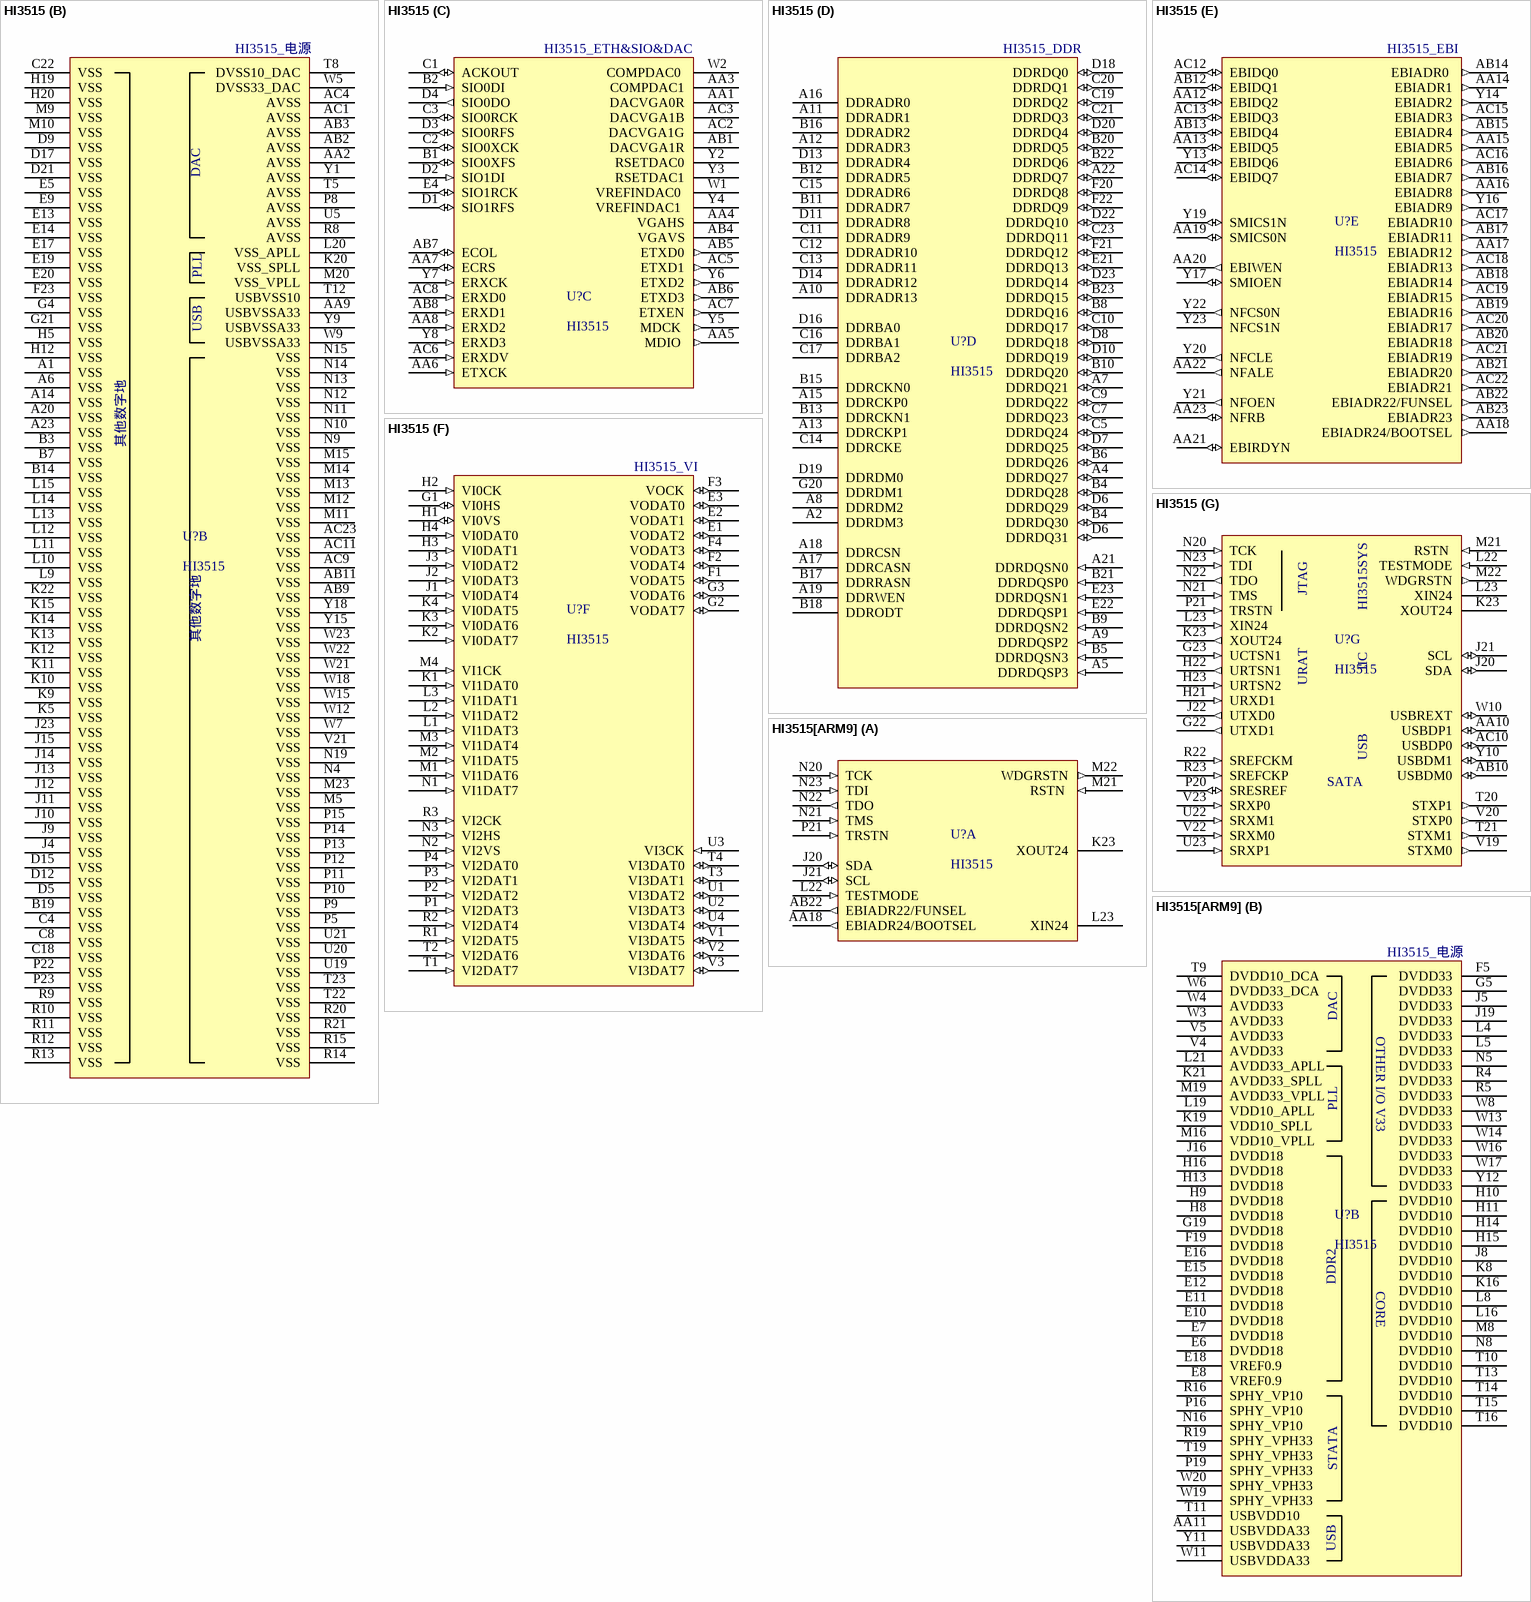
[diagram p4: symbols HI3515 to HI3515[ARM9]]

## HI3515
designator U?
footprint TFBGA441 (Footprint not found)
part A pins: AA11 USBVDDA33 (power) "USB 2.0 HOST模拟电源，外接  3.3V", E6 DVDD18 (power), E7 DVDD18 (power), E8 VREF0.9 (power), E10 DVDD18 (power), E11 DVDD18 (power), E12 DVDD18 (power), E15 DVDD18 (power), E16 DVDD18 (power), E18 VREF0.9 (power), F5 DVDD33 (power), F19 DVDD18 (power), G5 DVDD33. (power), G19 DVDD18 (power), H8 DVDD18 (power), H9 DVDD18 (power), H10 DVDD10 (power), H11 DVDD10 (power), H13 DVDD18 (power), H14 DVDD10 (power), H15 DVDD10 (power), H16 DVDD18 (power), J5 DVDD33. (power), J8 DVDD10 (power), J16 DVDD18 (power), J19 DVDD33. (power), K8 DVDD10 (power), K16 DVDD10 (power), K19 VDD10_SPLL (power), K21 AVDD33_SPLL (power), L4 DVDD33. (power), L5 DVDD33. (power), L8 DVDD10 (power), L16 DVDD10 (power), L19 VDD10_APLL (power), L21 AVDD33_APLL (power), M8 DVDD10 (power), M16 VDD10_VPLL (power), M19 AVDD33_VPLL (power), N5 DVDD33. (power), N8 DVDD10 (power), N16 SPHY_VP10 (power), P16 SPHY_VP10 (power), P19 SPHY_VPH33 (power) "3.3V", R4 DVDD33. (power), R5 DVDD33. (power), R16 SPHY_VP10 (power), R19 SPHY_VPH33 (power) "3.3V", T9 DVDD10_DCA (power), T10 DVDD10 (power), T11 USBVDD10 (power) "USB 2.0 HOST数字电源，外接  1.0V", T13 DVDD10 (power), T14 DVDD10 (power), T15 DVDD10 (power), T16 DVDD10 (power), T19 SPHY_VPH33 (power) "3.3V", V4 AVDD33 (power), V5 AVDD33 (power), W3 AVDD33 (power), W4 AVDD33 (power), W6 DVDD33_DCA (power), W8 DVDD33. (power), W11 USBVDDA33 (power) "USB 2.0 HOST模拟电源，外接  3.3V", W13 DVDD33. (power), W14 DVDD33. (power), W16 DVDD33. (power), W17 DVDD33. (power), W19 SPHY_VPH33 (power) "3.3V", W20 SPHY_VPH33 (power) "3.3V", Y11 USBVDDA33 (power) "USB 2.0 HOST模拟电源，外接  3.3V", Y12 DVDD33. (power)
part B pins: A1 VSS (power) "数字地", A6 VSS (power) "数字地", A14 VSS (power) "数字地", A20 VSS (power) "数字地", A23 VSS (power) "数字地", AA2 AVSS (power), AA9 USBVSSA33 (power), AB2 AVSS (power), AB3 AVSS (power), AB9 VSS (power) "数字地", AB11 VSS (power) "数字地", AC1 AVSS (power), AC4 AVSS (power), AC9 VSS (power) "数字地", AC11 VSS (power) "数字地", AC23 VSS (power) "数字地", B3 VSS (power) "数字地", B7 VSS (power) "数字地", B14 VSS (power) "数字地", B19 VSS (power) "数字地", C4 VSS (power) "数字地", C8 VSS (power) "数字地", C18 VSS (power) "数字地", C22 VSS (power) "数字地", D5 VSS (power) "数字地", D9 VSS (power) "数字地", D12 VSS (power) "数字地", D15 VSS (power) "数字地", D17 VSS (power) "数字地", D21 VSS (power) "数字地", E5 VSS (power) "数字地", E9 VSS (power) "数字地", E13 VSS (power) "数字地", E14 VSS (power) "数字地", E17 VSS (power) "数字地", E19 VSS (power) "数字地", E20 VSS (power) "数字地", F23 VSS (power) "数字地", G4 VSS (power) "数字地", G21 VSS (power) "数字地", H5 VSS (power) "数字地", H12 VSS (power) "数字地", H19 VSS (power) "数字地", H20 VSS (power) "数字地", J4 VSS (power) "数字地", J9 VSS (power) "数字地", J10 VSS (power) "数字地", J11 VSS (power) "数字地", J12 VSS (power) "数字地", J13 VSS (power) "数字地", J14 VSS (power) "数字地", J15 VSS (power) "数字地", J23 VSS (power) "数字地", K5 VSS (power) "数字地", K9 VSS (power) "数字地", K10 VSS (power) "数字地", K11 VSS (power) "数字地", K12 VSS (power) "数字地", K13 VSS (power) "数字地", K14 VSS (power) "数字地", K15 VSS (power) "数字地", K20 VSS_SPLL (power), K22 VSS (power) "数字地", L9 VSS (power) "数字地", L10 VSS (power) "数字地", L11 VSS (power) "数字地", L12 VSS (power) "数字地", L13 VSS (power) "数字地", L14 VSS (power) "数字地", L15 VSS (power) "数字地", L20 VSS_APLL (power), M5 VSS (power) "数字地", M9 VSS (power) "数字地", M10 VSS (power) "数字地", M11 VSS (power) "数字地", M12 VSS (power) "数字地", M13 VSS (power) "数字地", M14 VSS (power) "数字地", M15 VSS (power) "数字地", M20 VSS_VPLL (power), M23 VSS (power) "数字地", N4 VSS (power) "数字地", N9 VSS (power) "数字地", N10 VSS (power) "数字地", N11 VSS (power) "数字地", N12 VSS (power) "数字地", N13 VSS (power) "数字地", N14 VSS (power) "数字地", N15 VSS (power) "数字地", N19 VSS (power) "数字地", P5 VSS (power) "数字地", P8 AVSS (power), P9 VSS (power) "数字地", P10 VSS (power) "数字地", P11 VSS (power) "数字地", P12 VSS (power) "数字地", P13 VSS (power) "数字地", P14 VSS (power) "数字地", P15 VSS (power) "数字地", P22 VSS (power) "数字地", P23 VSS (power) "数字地", R8 AVSS (power), R9 VSS (power) "数字地", R10 VSS (power) "数字地", R11 VSS (power) "数字地", R12 VSS (power) "数字地", R13 VSS (power) "数字地", R14 VSS (power) "数字地", R15 VSS (power) "数字地", R20 VSS (power) "数字地", R21 VSS (power) "数字地", T5 AVSS (power), T8 DVSS10_DAC (power), T12 USBVSS10 (power), T22 VSS (power) "数字地", T23 VSS (power) "数字地", U5 AVSS (power), U19 VSS (power) "数字地", U20 VSS (power) "数字地", U21 VSS (power) "数字地", V21 VSS (power) "数字地", W5 DVSS33_DAC (power), W7 VSS (power) "数字地", W9 USBVSSA33 (power), W12 VSS (power) "数字地", W15 VSS (power) "数字地", W18 VSS (power) "数字地", W21 VSS (power) "数字地", W22 VSS (power) "数字地", W23 VSS (power) "数字地", Y1 AVSS (power), Y9 USBVSSA33 (power), Y15 VSS (power) "数字地", Y18 VSS (power) "数字地"
part C pins: AA1 DACVGA0R "DAC0 的Red 信号或者一路标  清的CVBS 输出，为模拟信  号", AA3 COMPDAC1 "DAC1 的补偿管脚，外接补偿电  容", AA4 VGAHS, AA5 MDIO  (out) "MDIO 接口的输入/ 输出信号", AA6 ETXCK (in) "ETH 发送侧时钟输入", AA7 ECRS  (io) "ETH 载波侦听信号", AA8 ERXD2 (in) "ETH 接收数据DAT", AB1 DACVGA1R "DAC1 的Red 信号，为模拟信  号", AB4 VGAVS, AB5 ETXD0 (out) "ETH 发送数据DAT", AB6 ETXD3 (out) "ETH 发送数据DAT", AB7 ECOL (io) "ETH 碰撞指示信号", AB8 ERXD1 (in) "ETH 接收数据DAT", AC2 DACVGA1G "DAC1 的Green信号，为模拟信  号", AC3 DACVGA1B "DAC1 的Blue 信号输出，为模  拟信号", AC5 ETXD1 (out) "ETH 发送数据DAT", AC6 ERXDV (in) "ETH 接收数据有效", AC7 ETXEN (out) "ETH 发送使能信号", AC8 ERXD0 (in) "ETH 接收数据DAT", B1 SIO0XFS (io) "SIO 接口0 发送侧帧同步信号", B2 SIO0DI (in) "SIO 接口0 数据输入。如不使  用，该管脚可悬空", C1 ACKOUT (io) "SIO 接口的可编程输出时钟，用  于支持低端DAC器件", C2 SIO0XCK (io) "SIO 接口0 发送侧位流时钟", C3 SIO0RCK (io) "SIO 接口0 接收侧位流时钟", D1 SIO1RFS (io) "SIO 接口1 接收侧帧同步信号", D2 SIO1DI (in) "SIO 接口1 数据输入。如不使  用，该管脚可悬空", D3 SIO0RFS (io) "SIO 接口0 接收侧帧同步信号", D4 SIO0DO (out) "SIO 接口0 数据输出", E4 SIO1RCK (io) "SIO 接口1 数SIO 接口1 接收侧位流时钟", W1 VREFINDAC0  "DAC0 的参考电压输入", W2 COMPDAC0  "DAC0 的补偿管脚，外接补偿电  容", Y2 RSETDAC0 "DAC0 的扩展电阻管脚，外接扩  展电阻", Y3 RSETDAC1 "DAC1 的扩展电阻管脚，外接扩  展电阻", Y4 VREFINDAC1  "DAC1 的参考电压输入", Y5 MDCK  (out) "MDIO 接口时钟输出", Y6 ETXD2 (out) "ETH 发送数据DAT", Y7 ERXCK (in) "ETH 接收侧时钟输入", Y8 ERXD3 (in) "ETH 接收数据DAT"
part D pins: A2 DDRDM3 "DDR端口的字节屏蔽信号，对  应数据总线DDRDQ[31:24]", A4 DDRDQ27 (io) "DDR端口的数据信号", A5 DDRDQSP3 (in) "DDR端口的数据选通正向差分  信号，对应数据总线  DDRDQ[31:24]", A7 DDRDQ21 (io) "DDR端口的数据信号", A8 DDRDM2 "DDR端口的字节屏蔽信号，对  应数据总线DDRDQ[23:16]", A9 DDRDQSP2 (in) "DDR端口的数据选通正向差分  信号，对应数据总线  DDRDQ[23:16]", A10 DDRADR13 "DDR端口的地址信号", A11 DDRADR1 "DDR端口的地址信号", A12 DDRADR3 "DDR端口的地址信号", A13 DDRCKP1 "DDR端口的01 组正向差分时  钟", A15 DDRCKP0 "DDR端口的0 组正向差分时  钟", A16 DDRADR0 "DDR端口的地址信号", A17 DDRCASN "DDR端口的列地址选通信号，  低电平有效", A18 DDRCSN "DDR端口输出到DDR2   SDRAM 的片选信号，低电平有  效。", A19 DDRWEN "DDR端口的写使能信号，低电  平有效", A21 DDRDQSN0 (in) "DDR端口的数据选通负向差分  信号，对应数据总线  DDRDQ[7:0]", A22 DDRDQ7 (io) "DDR端口的数据信号", B4 DDRDQ28 (io) "DDR端口的数据信号", B4 DDRDQ30 (io), B5 DDRDQSN3 (in) "DDR端口的数据选通负向差分  信号，对应数据总线  DDRDQ[31:24]。", B6 DDRDQ26 (io) "DDR端口的数据信号", B8 DDRDQ16 (io) "DDR端口的数据信号", B9 DDRDQSN2 (in) "DDR端口的数据选通负向差分  信号，对应数据总线  DDRDQ[23:16]", B10 DDRDQ20 (io) "DDR端口的数据信号", B11 DDRADR7 "DDR端口的地址信号", B12 DDRADR5 "DDR端口的地址信号", B13 DDRCKN1 "DDR端口的1 组负向差分时  钟", B15 DDRCKN0 "DDR端口的0 组负向差分时  钟", B16 DDRADR2 "DDR端口的地址信号", B17 DDRRASN "DDR端口的数据选DDR端口的行地址选通信号，  低电平有效", B18 DDRODT "DDR端口的数据选通正向差分  信号，对应数据总线  DDRDQ[31:24]", B20 DDRDQ5 (io) "DDR端口的数据信号", B21 DDRDQSP0 (in) "DDR端口的数据选通正向差分  信号，对应数据总线  DDRDQ[7:0]", B22 DDRDQ6 (io) "DDR端口的数据信号", B23 DDRDQ15 (io) "DDR端口的数据信号", C5 DDRDQ24 (io) "DDR端口的数据信号", C7 DDRDQ23 (io) "DDR端口的数据信号", C9 DDRDQ22 (io) "DDR端口的数据信号", C10 DDRDQ17 (io) "DDR端口的数据信号", C11 DDRADR9 "DDR端口的地址信号", C12 DDRADR10 "DDR端口的地址信号", C13 DDRADR11 "DDR端口的地址信号", C14 DDRCKE "DDR端口的时钟使能信号，高  电平有效", C15 DDRADR6 "DDR端口的地址信号", C16 DDRBA1 "DDR端口的bank 1 选择信号", C17 DDRBA2 "DDR端口的bank 2 选择信号", C19 DDRDQ2 (io) "DDR端口的数据信号", C20 DDRDQ1 (io) "DDR端口的数据信号", C21 DDRDQ3 (io) "DDR端口的数据信号", C23 DDRDQ11 (io) "DDR端口的数据信号", D6 DDRDQ29 (io) "DDR端口的数据信号", D6 DDRDQ31 (io), D7 DDRDQ25 (io) "DDR端口的数据信号", D8 DDRDQ18 (io) "DDR端口的数据信号", D10 DDRDQ19 (io) "DDR端口的数据信号", D11 DDRADR8 "DDR端口的地址信号", D13 DDRADR4 "DDR端口的地址信号", D14 DDRADR12 "DDR端口的地址信号", D16 DDRBA0 "DDR端口的bank 0 选择信号", D18 DDRDQ0 (io) "DDR端口的数据信号", D19 DDRDM0 "DDR端口输出到DDR2DDR端口的字节屏蔽信号，对  应数据总线DDRDQ[7:0]", D20 DDRDQ4 (io) "DDR端口的数据信号", D22 DDRDQ10 (io) "DDR端口的数据信号", D23 DDRDQ14 (io) "DDR端口的数据信号", E21 DDRDQ13 (io) "DDR端口的数据信号", E22 DDRDQSP1 (in) "DDR端口的数据选通正向差分  信号，对应数据总线  DDRDQ[15:8]", E23 DDRDQSN1 (in) "DDR端口的数据选通负向差分  信号，对应数据总线  DDRDQ[15:8] 。", F20 DDRDQ8 (io) "DDR端口的数据信号", F21 DDRDQ12 (io) "DDR端口的数据信号", F22 DDRDQ9 (io) "DDR端口的数据信号", G20 DDRDM1 "DDR端口的字节屏蔽信号，对  应数据总线DDRDQ[15:8]"
part E pins: AA12 EBIDQ2 (io) "EBI 数据总线", AA13 EBIDQ5 (io) "EBI 数据总线", AA14 EBIADR1 (out) "EBI 地址总线", AA15 EBIADR5 (out) "EBI 地址总线", AA16 EBIADR8 (out) "EBI 地址总线", AA17 EBIADR12 (out) "EBI 地址总线", AA18 EBIADR24/BOOTSEL (out) "EBI 地址总线", AA19 SMICS0N (io) "NAND Flash的空闲指示信号。  0 ：忙；   1 ：空闲。   外接两片NAND Flash时，需要  将两片Flash器件的输出经过线  与后连接到本管脚", AA20 EBIWEN  (out) "SMI 接口的输入Ready 指EBI 写信号，低电平有效", AA21 EBIRDYN (io) "SMI 接口的输入Ready 指示信  号，低电平有效。如不使用，  该管脚可悬空", AA22 NFALE (out) "NAND Flash地址锁存信号", AA23 NFRB (io) "NAND Flash的空闲指示信号。  0 ：忙；   1 ：空闲。   外接两片NAND Flash时，需要  将两片Flash器件的输出经过线  与后连接到本管脚", AB12 EBIDQ1 (io) "EBI 数据总线", AB13 EBIDQ4 (io) "EBI 数据总线", AB14 EBIADR0  (out) "EBI 地址总线", AB15 EBIADR4 (out) "EBI 地址总线", AB16 EBIADR7 (out) "EBI 地址总线", AB17 EBIADR11 (out) "EBI 地址总线", AB18 EBIADR14 (out) "EBI 地址总线", AB19 EBIADR16 (out) "EBI 地址总线", AB20 EBIADR18 (out) "EBI 地址总线", AB21 EBIADR20 (out) "EBI 地址总线", AB22 EBIADR22/FUNSEL (out) "EBI 地址总线", AB23 EBIADR23 (out) "EBI 地址总线", AC12 EBIDQ0 (io) "EBI 数据总线", AC13 EBIDQ3 (io) "EBI 数据总线", AC14 EBIDQ7 (io) "EBI 数据总线", AC15 EBIADR3 (out) "EBI 地址总线", AC16 EBIADR6 (out) "EBI 地址总线", AC17 EBIADR10 (out) "EBI 地址总线", AC18 EBIADR13 (out) "EBI 地址总线", AC19 EBIADR15 (out) "EBI 地址总线", AC20 EBIADR17 (out) "EBI 地址总线", AC21 EBIADR19 (out) "EBI 地址总线", AC22 EBIADR21 (out) "EBI 地址总线", Y13 EBIDQ6 (io) "EBI 数据总线", Y14 EBIADR2 (out) "EBI 地址总线", Y16 EBIADR9 (out) "EBI 地址总线", Y17 SMIOEN (io) "SMI 接口的读使能信号，低电  平有效", Y19 SMICS1N (io) "SMI 片选信号1 ，可配置成低电  平有效或高电平有效，默认为  低电平有效", Y20 NFCLE (out) "NAND Flash命令锁存信号", Y21 NFOEN (out) "NAND Flash的读使能信号，低  电平有效", Y22 NFCS0N (out) "NAND Flash片选信号0 ，低电  平有效。系统支持从该片选启  动", Y23 NFCS1N "NAND Flash片选信号1 ，低电  平有效"
part F pins: E1 VODAT2 (io) "标清图像输出数据DAT", E2 VODAT1 (io) "标清图像输出数据DAT", E3 VODAT0 (io) "标清图像输出数据DAT", F1 VODAT5 (io) "标清图像输出数据DAT", F2 VODAT4 (io) "标清图像输出数据DAT", F3 VOCK (io) "标清图像输出时钟", F4 VODAT3 (io) "标清图像输出数据DAT", G1 VI0HS (io) "VI0 接口的水平同步信号。如不  使用，该管脚可悬空", G2 VODAT7 (io) "标清图像输出数据DAT", G3 VODAT6 (io) "标清图像输出数据DAT", H1 VI0VS (io) "VI0 接口的垂直同步信号。如不  使用，该管脚可悬空", H2 VI0CK (in) "VI0 接口的时钟", H3 VI0DAT1 (in) "VI0 接口的数据DAT", H4 VI0DAT0 (in) "VI0 接口的时钟", J1 VI0DAT4 (in) "VI0 接口的数据DAT", J2 VI0DAT3 (in) "VI0 接口的数据DAT", J3 VI0DAT2 (in) "VI0 接口的数据DAT", K1 VI1DAT0 (in) "VI1 接口的数据DAT", K2 VI0DAT7 (in) "VI0 接口的数据DAT", K3 VI0DAT6 (in) "VI0 接口的数据DAT", K4 VI0DAT5 (in) "VI0 接口的数据DAT", L1 VI1DAT3 (in) "VI1 接口的数据DAT", L2 VI1DAT2 (in) "VI1 接口的数据DAT", L3 VI1DAT1 (in) "VI1 接口的数据DAT", M1 VI1DAT6 (in) "VI1 接口的数据DAT", M2 VI1DAT5 (in) "VI1 接口的数据DAT", M3 VI1DAT4 (in) "VI1 接口的数据DAT", M4 VI1CK  (in) "VI1 接口的时钟", N1 VI1DAT7 (in) "VI1 接口的数据DAT", N2 VI2VS (in) "VI2 接口的垂直同步信号。如不  使用，该管脚可悬空", N3 VI2HS  (in) "VI2 接口的水平同步信号。如不  使用，该管脚可悬空", P1 VI2DAT3 (in) "VI2 接口的时钟", P2 VI2DAT2 (in) "VI2 接口的时钟", P3 VI2DAT1 (in) "VI2 接口的时钟", P4 VI2DAT0 (in) "VI2 接口的时钟", R1 VI2DAT5 (in) "VI2 接口的时钟", R2 VI2DAT4 (in) "VI2 接口的时钟", R3 VI2CK  (in) "VI2 接口的时钟", T1 VI2DAT7 (in) "VI2 接口的时钟", T2 VI2DAT6 (in) "VI2 接口的时钟", T3 VI3DAT1 (io) "VI3 接口的数据DAT0", T4 VI3DAT0 (io) "VI3 接口的数据DAT0", U1 VI3DAT2 (io) "VI3 接口的数据DAT0", U2 VI3DAT3 (io) "VI3 接口的数据DAT0", U3 VI3CK (in) "VI3 接口的时钟", U4 VI3DAT4 (io) "VI3 接口的数据DAT0", V1 VI3DAT5 (io) "VI3 接口的数据DAT0", V2 VI3DAT6 (io) "VI3 接口的数据DAT0", V3 VI3DAT7 (io) "VI3 接口的数据DAT0"
part G pins: AA10 USBDP1 (io) "USB 2.0 HOST端口1 D+差分数  据总线，为模拟信号", AB10 USBDM0 (io) "USB 2.0 HOST端口0 D- 差分数  据总线，为模拟信号", AC10 USBDP0 (io) "USB 2.0 HOST端口0 D+差分数  据总线，为模拟信号", G22 UTXD1 (out) "UART1数据发送", G23 UCTSN1 (in) "SATA 端口1 的正相差分数据输出", H21 URXD1 (in) "UART1数据接收", H22 URTSN1 (out) "UART1的RTSN 信号", H23 URTSN2 (in) "UART0数据接收", J20 SDA (io) "I  2  C 总线数据/ 地址，OD输出。  PCB 上需要外界上拉电阻", J21 SCL (io) "I  2  C 总线时钟，OD输出。PCB  上需要外界上拉电阻", J22 UTXD0 (out) "UART1数据接收", K23 XOUT24 (out) "24MHz晶振时钟输出。如果接  钟振，该管脚悬空", K23 XOUT24, L22 TESTMODE (in) "功能模式和ARM debug 模式选  择。   0 ：正常工作模式，ARM可进  入debug 模式；   1 ：测试模式", L23 XIN24  (in) "24MHz晶振时钟输入", L23 XIN24, M21 RSTN  (in) "系统上电复位信号输入，低电  平有效", M22 WDGRSTN (out) "看门狗复位输出，低电平有  效，OD输出", N20 TCK (in) "JTAG 时钟输入", N21 TMS (in) "JTAG 模式选择输入", N22 TDO  (out) "JTAG 数据输出", N23 TDI  (in) "JTAG 数据输入", P20 SRESREF (io) "SATA 的扩展电阻管脚，外接  190? 扩展电阻", P21 TRSTN (in) "JTAG 复位输入，低电平有效", R22 SREFCKM (in) "SATA 的负相差分时钟输入", R23 SREFCKP (in) "SATA 的正相差分时钟输入", T20 STXP1 (out) "SATA 端口1 的正相差分数据输出", T21 STXM1 (out) "SATA 端口1 的负相差分数据输  出", U22 SRXM1 (in) "SATA 端口1 的负相差分数据输  入", U23 SRXP1 (in) "SATA 端口1 的正相差分数据输  入", V19 STXM0 (out) "SATA 端口0 的负相差分数据输  出", V20 STXP0 (out) "SATA 端口0 的正相差分数据输  出", V22 SRXM0 (in) "SATA 端口0 的负相差分数据输  入", V23 SRXP0 (in) "SATA 端口0 的正相差分数据输  入", W10 USBREXT (io) "USB 2.0 HOST外置电阻连接  端", Y10 USBDM1 (io) "USB 2.0 HOUSB 2.0 HOST端口1 D- 差分数  据总线，为模拟信号"
part A text: HI3515_电源; DAC; OTHER I/O V33; PLL; DDR2; CORE; STATA; USB
part B text: HI3515_电源; DAC; PLL; USB; 其他数字地
part C text: HI3515_ETH&SIO&DAC
part D text: HI3515_DDR
part E text: HI3515_EBI
part F text: HI3515_VI
part G text: JTAG; HI3515SYS; IIC; URAT; USB; SATA

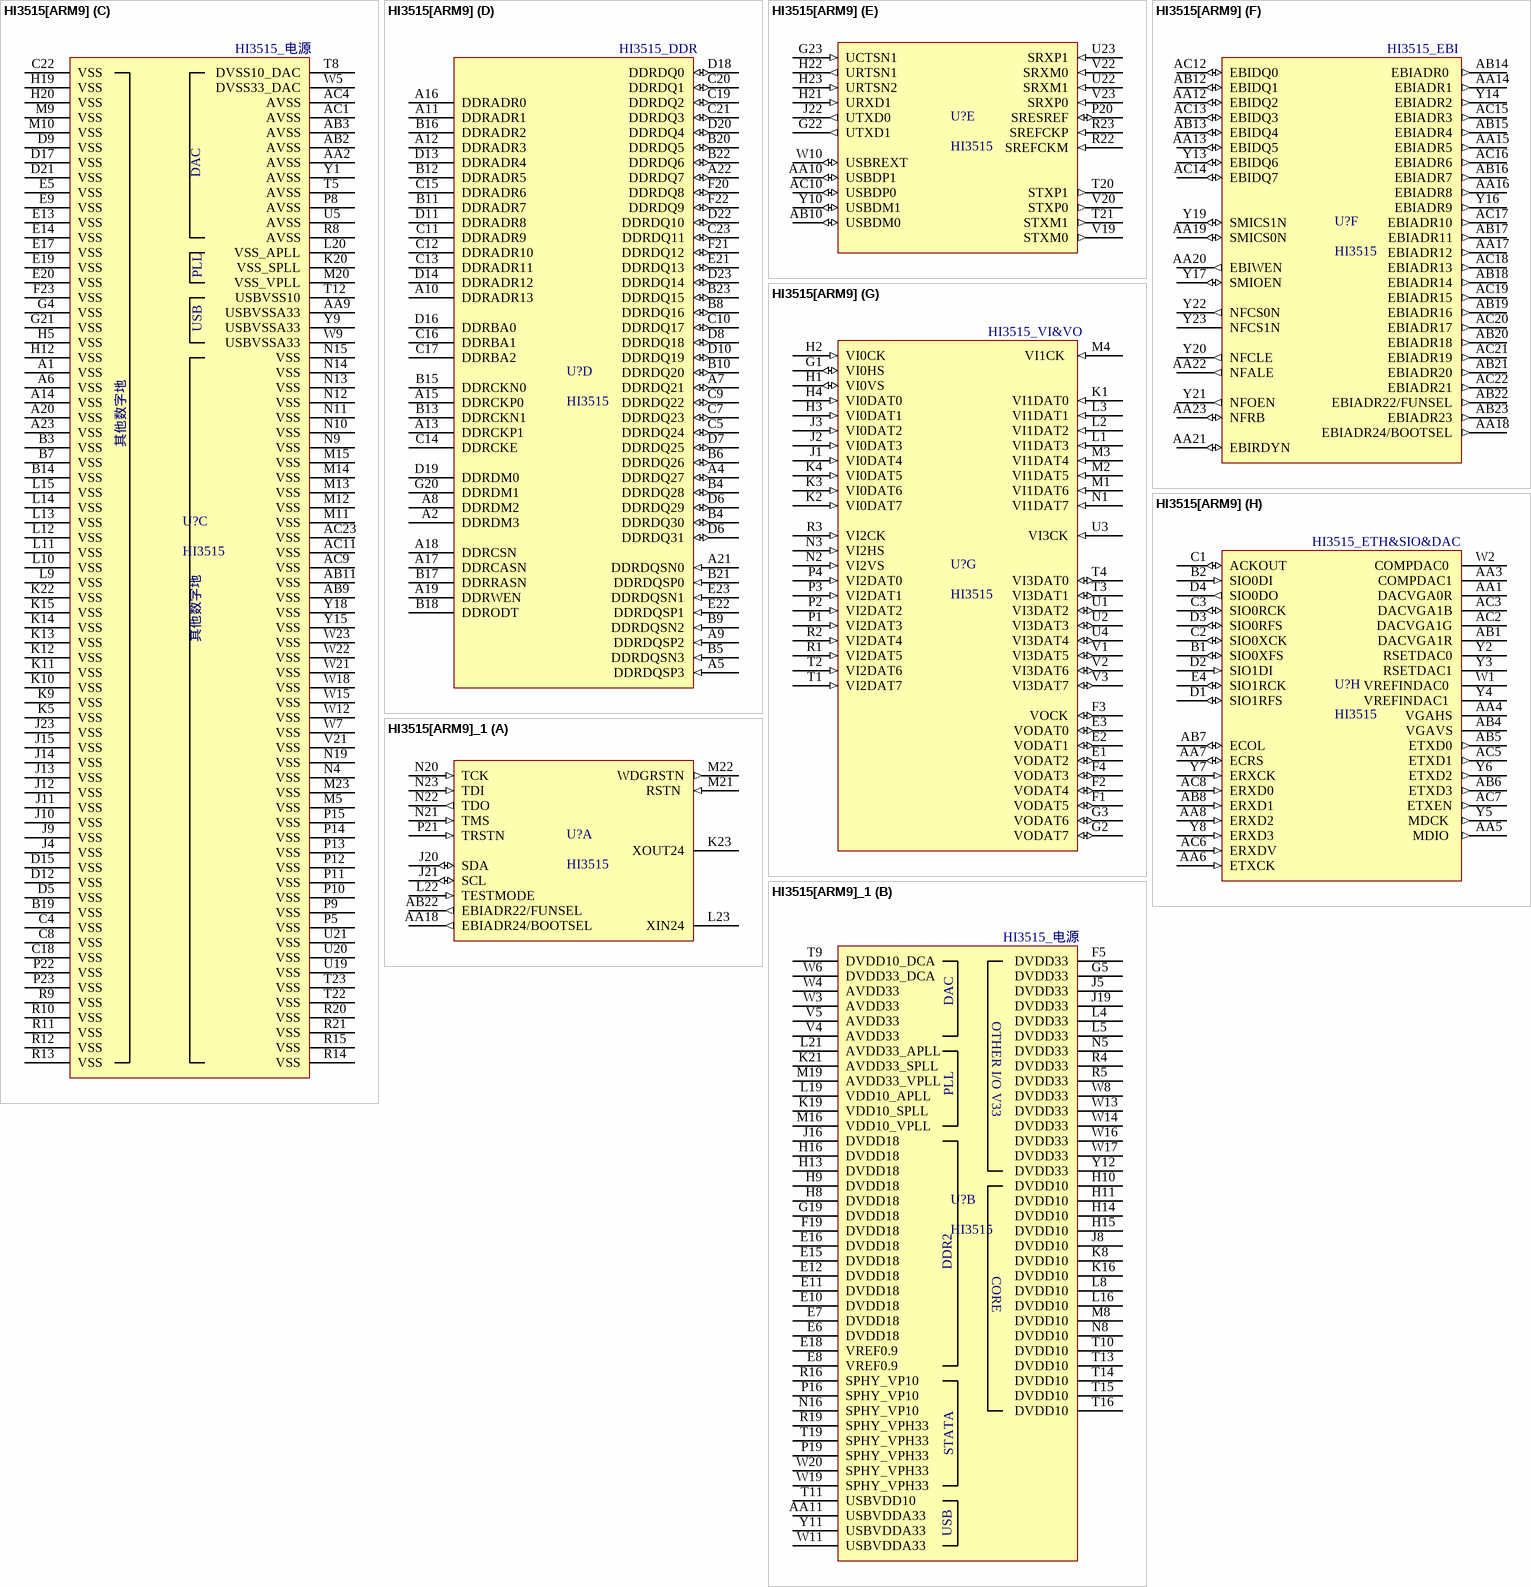
[diagram p5: symbols HI3515[ARM9] to HI3515[ARM9]_1]

## HI3515[ARM9]
designator U?, comment HI3515
footprint TFBGA441
part A pins: AA18 EBIADR24/BOOTSEL (out) "EBI 地址总线", AB22 EBIADR22/FUNSEL (out) "EBI 地址总线", J20 SDA (io) "I  2  C 总线数据/ 地址，OD输出。  PCB 上需要外界上拉电阻", J21 SCL (io) "I  2  C 总线时钟，OD输出。PCB  上需要外界上拉电阻", K23 XOUT24, L22 TESTMODE (in) "功能模式和ARM debug 模式选  择。   0 ：正常工作模式，ARM可进  入debug 模式；   1 ：测试模式", L23 XIN24, M21 RSTN  (in) "系统上电复位信号输入，低电  平有效", M22 WDGRSTN (out) "看门狗复位输出，低电平有  效，OD输出", N20 TCK (in) "JTAG 时钟输入", N21 TMS (in) "JTAG 模式选择输入", N22 TDO  (out) "JTAG 数据输出", N23 TDI  (in) "JTAG 数据输入", P21 TRSTN (in) "JTAG 复位输入，低电平有效"
part B pins: AA11 USBVDDA33 (power) "USB 2.0 HOST模拟电源，外接  3.3V", E6 DVDD18 (power), E7 DVDD18 (power), E8 VREF0.9 (power), E10 DVDD18 (power), E11 DVDD18 (power), E12 DVDD18 (power), E15 DVDD18 (power), E16 DVDD18 (power), E18 VREF0.9 (power), F5 DVDD33 (power), F19 DVDD18 (power), G5 DVDD33 (power), G19 DVDD18 (power), H8 DVDD18 (power), H9 DVDD18 (power), H10 DVDD10 (power), H11 DVDD10 (power), H13 DVDD18 (power), H14 DVDD10 (power), H15 DVDD10 (power), H16 DVDD18 (power), J5 DVDD33 (power), J8 DVDD10 (power), J16 DVDD18 (power), J19 DVDD33 (power), K8 DVDD10 (power), K16 DVDD10 (power), K19 VDD10_SPLL (power), K21 AVDD33_SPLL (power), L4 DVDD33 (power), L5 DVDD33 (power), L8 DVDD10 (power), L16 DVDD10 (power), L19 VDD10_APLL (power), L21 AVDD33_APLL (power), M8 DVDD10 (power), M16 VDD10_VPLL (power), M19 AVDD33_VPLL (power), N5 DVDD33 (power), N8 DVDD10 (power), N16 SPHY_VP10 (power), P16 SPHY_VP10 (power), P19 SPHY_VPH33 (power) "3.3V", R4 DVDD33 (power), R5 DVDD33 (power), R16 SPHY_VP10 (power), R19 SPHY_VPH33 (power) "3.3V", T9 DVDD10_DCA (power), T10 DVDD10 (power), T11 USBVDD10 (power) "USB 2.0 HOST数字电源，外接  1.0V", T13 DVDD10 (power), T14 DVDD10 (power), T15 DVDD10 (power), T16 DVDD10 (power), T19 SPHY_VPH33 (power) "3.3V", V4 AVDD33 (power), V5 AVDD33 (power), W3 AVDD33 (power), W4 AVDD33 (power), W6 DVDD33_DCA (power), W8 DVDD33 (power), W11 USBVDDA33 (power) "USB 2.0 HOST模拟电源，外接  3.3V", W13 DVDD33 (power), W14 DVDD33 (power), W16 DVDD33 (power), W17 DVDD33 (power), W19 SPHY_VPH33 (power) "3.3V", W20 SPHY_VPH33 (power) "3.3V", Y11 USBVDDA33 (power) "USB 2.0 HOST模拟电源，外接  3.3V", Y12 DVDD33 (power)
part C pins: A1 VSS (power) "数字地", A6 VSS (power) "数字地", A14 VSS (power) "数字地", A20 VSS (power) "数字地", A23 VSS (power) "数字地", AA2 AVSS (power), AA9 USBVSSA33 (power), AB2 AVSS (power), AB3 AVSS (power), AB9 VSS (power) "数字地", AB11 VSS (power) "数字地", AC1 AVSS (power), AC4 AVSS (power), AC9 VSS (power) "数字地", AC11 VSS (power) "数字地", AC23 VSS (power) "数字地", B3 VSS (power) "数字地", B7 VSS (power) "数字地", B14 VSS (power) "数字地", B19 VSS (power) "数字地", C4 VSS (power) "数字地", C8 VSS (power) "数字地", C18 VSS (power) "数字地", C22 VSS (power) "数字地", D5 VSS (power) "数字地", D9 VSS (power) "数字地", D12 VSS (power) "数字地", D15 VSS (power) "数字地", D17 VSS (power) "数字地", D21 VSS (power) "数字地", E5 VSS (power) "数字地", E9 VSS (power) "数字地", E13 VSS (power) "数字地", E14 VSS (power) "数字地", E17 VSS (power) "数字地", E19 VSS (power) "数字地", E20 VSS (power) "数字地", F23 VSS (power) "数字地", G4 VSS (power) "数字地", G21 VSS (power) "数字地", H5 VSS (power) "数字地", H12 VSS (power) "数字地", H19 VSS (power) "数字地", H20 VSS (power) "数字地", J4 VSS (power) "数字地", J9 VSS (power) "数字地", J10 VSS (power) "数字地", J11 VSS (power) "数字地", J12 VSS (power) "数字地", J13 VSS (power) "数字地", J14 VSS (power) "数字地", J15 VSS (power) "数字地", J23 VSS (power) "数字地", K5 VSS (power) "数字地", K9 VSS (power) "数字地", K10 VSS (power) "数字地", K11 VSS (power) "数字地", K12 VSS (power) "数字地", K13 VSS (power) "数字地", K14 VSS (power) "数字地", K15 VSS (power) "数字地", K20 VSS_SPLL (power), K22 VSS (power) "数字地", L9 VSS (power) "数字地", L10 VSS (power) "数字地", L11 VSS (power) "数字地", L12 VSS (power) "数字地", L13 VSS (power) "数字地", L14 VSS (power) "数字地", L15 VSS (power) "数字地", L20 VSS_APLL (power), M5 VSS (power) "数字地", M9 VSS (power) "数字地", M10 VSS (power) "数字地", M11 VSS (power) "数字地", M12 VSS (power) "数字地", M13 VSS (power) "数字地", M14 VSS (power) "数字地", M15 VSS (power) "数字地", M20 VSS_VPLL (power), M23 VSS (power) "数字地", N4 VSS (power) "数字地", N9 VSS (power) "数字地", N10 VSS (power) "数字地", N11 VSS (power) "数字地", N12 VSS (power) "数字地", N13 VSS (power) "数字地", N14 VSS (power) "数字地", N15 VSS (power) "数字地", N19 VSS (power) "数字地", P5 VSS (power) "数字地", P8 AVSS (power), P9 VSS (power) "数字地", P10 VSS (power) "数字地", P11 VSS (power) "数字地", P12 VSS (power) "数字地", P13 VSS (power) "数字地", P14 VSS (power) "数字地", P15 VSS (power) "数字地", P22 VSS (power) "数字地", P23 VSS (power) "数字地", R8 AVSS (power), R9 VSS (power) "数字地", R10 VSS (power) "数字地", R11 VSS (power) "数字地", R12 VSS (power) "数字地", R13 VSS (power) "数字地", R14 VSS (power) "数字地", R15 VSS (power) "数字地", R20 VSS (power) "数字地", R21 VSS (power) "数字地", T5 AVSS (power), T8 DVSS10_DAC (power), T12 USBVSS10 (power), T22 VSS (power) "数字地", T23 VSS (power) "数字地", U5 AVSS (power), U19 VSS (power) "数字地", U20 VSS (power) "数字地", U21 VSS (power) "数字地", V21 VSS (power) "数字地", W5 DVSS33_DAC (power), W7 VSS (power) "数字地", W9 USBVSSA33 (power), W12 VSS (power) "数字地", W15 VSS (power) "数字地", W18 VSS (power) "数字地", W21 VSS (power) "数字地", W22 VSS (power) "数字地", W23 VSS (power) "数字地", Y1 AVSS (power), Y9 USBVSSA33 (power), Y15 VSS (power) "数字地", Y18 VSS (power) "数字地"
part D pins: A2 DDRDM3 "DDR端口的字节屏蔽信号，对  应数据总线DDRDQ[31:24]", A4 DDRDQ27 (io) "DDR端口的数据信号", A5 DDRDQSP3 (in) "DDR端口的数据选通正向差分  信号，对应数据总线  DDRDQ[31:24]", A7 DDRDQ21 (io) "DDR端口的数据信号", A8 DDRDM2 "DDR端口的字节屏蔽信号，对  应数据总线DDRDQ[23:16]", A9 DDRDQSP2 (in) "DDR端口的数据选通正向差分  信号，对应数据总线  DDRDQ[23:16]", A10 DDRADR13 "DDR端口的地址信号", A11 DDRADR1 "DDR端口的地址信号", A12 DDRADR3 "DDR端口的地址信号", A13 DDRCKP1 "DDR端口的01 组正向差分时  钟", A15 DDRCKP0 "DDR端口的0 组正向差分时  钟", A16 DDRADR0 "DDR端口的地址信号", A17 DDRCASN "DDR端口的列地址选通信号，  低电平有效", A18 DDRCSN "DDR端口输出到DDR2   SDRAM 的片选信号，低电平有  效。", A19 DDRWEN "DDR端口的写使能信号，低电  平有效", A21 DDRDQSN0 (in) "DDR端口的数据选通负向差分  信号，对应数据总线  DDRDQ[7:0]", A22 DDRDQ7 (io) "DDR端口的数据信号", B4 DDRDQ28 (io) "DDR端口的数据信号", B4 DDRDQ30 (io), B5 DDRDQSN3 (in) "DDR端口的数据选通负向差分  信号，对应数据总线  DDRDQ[31:24]。", B6 DDRDQ26 (io) "DDR端口的数据信号", B8 DDRDQ16 (io) "DDR端口的数据信号", B9 DDRDQSN2 (in) "DDR端口的数据选通负向差分  信号，对应数据总线  DDRDQ[23:16]", B10 DDRDQ20 (io) "DDR端口的数据信号", B11 DDRADR7 "DDR端口的地址信号", B12 DDRADR5 "DDR端口的地址信号", B13 DDRCKN1 "DDR端口的1 组负向差分时  钟", B15 DDRCKN0 "DDR端口的0 组负向差分时  钟", B16 DDRADR2 "DDR端口的地址信号", B17 DDRRASN "DDR端口的数据选DDR端口的行地址选通信号，  低电平有效", B18 DDRODT "DDR端口的数据选通正向差分  信号，对应数据总线  DDRDQ[31:24]", B20 DDRDQ5 (io) "DDR端口的数据信号", B21 DDRDQSP0 (in) "DDR端口的数据选通正向差分  信号，对应数据总线  DDRDQ[7:0]", B22 DDRDQ6 (io) "DDR端口的数据信号", B23 DDRDQ15 (io) "DDR端口的数据信号", C5 DDRDQ24 (io) "DDR端口的数据信号", C7 DDRDQ23 (io) "DDR端口的数据信号", C9 DDRDQ22 (io) "DDR端口的数据信号", C10 DDRDQ17 (io) "DDR端口的数据信号", C11 DDRADR9 "DDR端口的地址信号", C12 DDRADR10 "DDR端口的地址信号", C13 DDRADR11 "DDR端口的地址信号", C14 DDRCKE "DDR端口的时钟使能信号，高  电平有效", C15 DDRADR6 "DDR端口的地址信号", C16 DDRBA1 "DDR端口的bank 1 选择信号", C17 DDRBA2 "DDR端口的bank 2 选择信号", C19 DDRDQ2 (io) "DDR端口的数据信号", C20 DDRDQ1 (io) "DDR端口的数据信号", C21 DDRDQ3 (io) "DDR端口的数据信号", C23 DDRDQ11 (io) "DDR端口的数据信号", D6 DDRDQ29 (io) "DDR端口的数据信号", D6 DDRDQ31 (io), D7 DDRDQ25 (io) "DDR端口的数据信号", D8 DDRDQ18 (io) "DDR端口的数据信号", D10 DDRDQ19 (io) "DDR端口的数据信号", D11 DDRADR8 "DDR端口的地址信号", D13 DDRADR4 "DDR端口的地址信号", D14 DDRADR12 "DDR端口的地址信号", D16 DDRBA0 "DDR端口的bank 0 选择信号", D18 DDRDQ0 (io) "DDR端口的数据信号", D19 DDRDM0 "DDR端口输出到DDR2DDR端口的字节屏蔽信号，对  应数据总线DDRDQ[7:0]", D20 DDRDQ4 (io) "DDR端口的数据信号", D22 DDRDQ10 (io) "DDR端口的数据信号", D23 DDRDQ14 (io) "DDR端口的数据信号", E21 DDRDQ13 (io) "DDR端口的数据信号", E22 DDRDQSP1 (in) "DDR端口的数据选通正向差分  信号，对应数据总线  DDRDQ[15:8]", E23 DDRDQSN1 (in) "DDR端口的数据选通负向差分  信号，对应数据总线  DDRDQ[15:8] 。", F20 DDRDQ8 (io) "DDR端口的数据信号", F21 DDRDQ12 (io) "DDR端口的数据信号", F22 DDRDQ9 (io) "DDR端口的数据信号", G20 DDRDM1 "DDR端口的字节屏蔽信号，对  应数据总线DDRDQ[15:8]"
part E pins: AA10 USBDP1 (io) "USB 2.0 HOST端口1 D+差分数  据总线，为模拟信号", AB10 USBDM0 (io) "USB 2.0 HOST端口0 D- 差分数  据总线，为模拟信号", AC10 USBDP0 (io) "USB 2.0 HOST端口0 D+差分数  据总线，为模拟信号", G22 UTXD1 (out) "UART1数据发送", G23 UCTSN1 (in) "SATA 端口1 的正相差分数据输出", H21 URXD1 (in) "UART1数据接收", H22 URTSN1 (out) "UART1的RTSN 信号", H23 URTSN2 (in) "UART0数据接收", J22 UTXD0 (out) "UART1数据接收", P20 SRESREF (io) "SATA 的扩展电阻管脚，外接  190? 扩展电阻", R22 SREFCKM (in) "SATA 的负相差分时钟输入", R23 SREFCKP (in) "SATA 的正相差分时钟输入", T20 STXP1 (out) "SATA 端口1 的正相差分数据输出", T21 STXM1 (out) "SATA 端口1 的负相差分数据输  出", U22 SRXM1 (in) "SATA 端口1 的负相差分数据输  入", U23 SRXP1 (in) "SATA 端口1 的正相差分数据输  入", V19 STXM0 (out) "SATA 端口0 的负相差分数据输  出", V20 STXP0 (out) "SATA 端口0 的正相差分数据输  出", V22 SRXM0 (in) "SATA 端口0 的负相差分数据输  入", V23 SRXP0 (in) "SATA 端口0 的正相差分数据输  入", W10 USBREXT (io) "USB 2.0 HOST外置电阻连接  端", Y10 USBDM1 (io) "USB 2.0 HOUSB 2.0 HOST端口1 D- 差分数  据总线，为模拟信号"
part F pins: AA12 EBIDQ2 (io) "EBI 数据总线", AA13 EBIDQ5 (io) "EBI 数据总线", AA14 EBIADR1 (out) "EBI 地址总线", AA15 EBIADR5 (out) "EBI 地址总线", AA16 EBIADR8 (out) "EBI 地址总线", AA17 EBIADR12 (out) "EBI 地址总线", AA18 EBIADR24/BOOTSEL (out) "EBI 地址总线", AA19 SMICS0N (io) "NAND Flash的空闲指示信号。  0 ：忙；   1 ：空闲。   外接两片NAND Flash时，需要  将两片Flash器件的输出经过线  与后连接到本管脚", AA20 EBIWEN  (out) "SMI 接口的输入Ready 指EBI 写信号，低电平有效", AA21 EBIRDYN (io) "SMI 接口的输入Ready 指示信  号，低电平有效。如不使用，  该管脚可悬空", AA22 NFALE (out) "NAND Flash地址锁存信号", AA23 NFRB (io) "NAND Flash的空闲指示信号。  0 ：忙；   1 ：空闲。   外接两片NAND Flash时，需要  将两片Flash器件的输出经过线  与后连接到本管脚", AB12 EBIDQ1 (io) "EBI 数据总线", AB13 EBIDQ4 (io) "EBI 数据总线", AB14 EBIADR0  (out) "EBI 地址总线", AB15 EBIADR4 (out) "EBI 地址总线", AB16 EBIADR7 (out) "EBI 地址总线", AB17 EBIADR11 (out) "EBI 地址总线", AB18 EBIADR14 (out) "EBI 地址总线", AB19 EBIADR16 (out) "EBI 地址总线", AB20 EBIADR18 (out) "EBI 地址总线", AB21 EBIADR20 (out) "EBI 地址总线", AB22 EBIADR22/FUNSEL (out) "EBI 地址总线", AB23 EBIADR23 (out) "EBI 地址总线", AC12 EBIDQ0 (io) "EBI 数据总线", AC13 EBIDQ3 (io) "EBI 数据总线", AC14 EBIDQ7 (io) "EBI 数据总线", AC15 EBIADR3 (out) "EBI 地址总线", AC16 EBIADR6 (out) "EBI 地址总线", AC17 EBIADR10 (out) "EBI 地址总线", AC18 EBIADR13 (out) "EBI 地址总线", AC19 EBIADR15 (out) "EBI 地址总线", AC20 EBIADR17 (out) "EBI 地址总线", AC21 EBIADR19 (out) "EBI 地址总线", AC22 EBIADR21 (out) "EBI 地址总线", Y13 EBIDQ6 (io) "EBI 数据总线", Y14 EBIADR2 (out) "EBI 地址总线", Y16 EBIADR9 (out) "EBI 地址总线", Y17 SMIOEN (io) "SMI 接口的读使能信号，低电  平有效", Y19 SMICS1N (io) "SMI 片选信号1 ，可配置成低电  平有效或高电平有效，默认为  低电平有效", Y20 NFCLE (out) "NAND Flash命令锁存信号", Y21 NFOEN (out) "NAND Flash的读使能信号，低  电平有效", Y22 NFCS0N (out) "NAND Flash片选信号0 ，低电  平有效。系统支持从该片选启  动", Y23 NFCS1N "NAND Flash片选信号1 ，低电  平有效"
part G pins: E1 VODAT2 (io) "标清图像输出数据DAT", E2 VODAT1 (io) "标清图像输出数据DAT", E3 VODAT0 (io) "标清图像输出数据DAT", F1 VODAT5 (io) "标清图像输出数据DAT", F2 VODAT4 (io) "标清图像输出数据DAT", F3 VOCK (io) "标清图像输出时钟", F4 VODAT3 (io) "标清图像输出数据DAT", G1 VI0HS (io) "VI0 接口的水平同步信号。如不  使用，该管脚可悬空", G2 VODAT7 (io) "标清图像输出数据DAT", G3 VODAT6 (io) "标清图像输出数据DAT", H1 VI0VS (io) "VI0 接口的垂直同步信号。如不  使用，该管脚可悬空", H2 VI0CK (in) "VI0 接口的时钟", H3 VI0DAT1 (in) "VI0 接口的数据DAT", H4 VI0DAT0 (in) "VI0 接口的时钟", J1 VI0DAT4 (in) "VI0 接口的数据DAT", J2 VI0DAT3 (in) "VI0 接口的数据DAT", J3 VI0DAT2 (in) "VI0 接口的数据DAT", K1 VI1DAT0 (in) "VI1 接口的数据DAT", K2 VI0DAT7 (in) "VI0 接口的数据DAT", K3 VI0DAT6 (in) "VI0 接口的数据DAT", K4 VI0DAT5 (in) "VI0 接口的数据DAT", L1 VI1DAT3 (in) "VI1 接口的数据DAT", L2 VI1DAT2 (in) "VI1 接口的数据DAT", L3 VI1DAT1 (in) "VI1 接口的数据DAT", M1 VI1DAT6 (in) "VI1 接口的数据DAT", M2 VI1DAT5 (in) "VI1 接口的数据DAT", M3 VI1DAT4 (in) "VI1 接口的数据DAT", M4 VI1CK  (in) "VI1 接口的时钟", N1 VI1DAT7 (in) "VI1 接口的数据DAT", N2 VI2VS (in) "VI2 接口的垂直同步信号。如不  使用，该管脚可悬空", N3 VI2HS  (in) "VI2 接口的水平同步信号。如不  使用，该管脚可悬空", P1 VI2DAT3 (in) "VI2 接口的时钟", P2 VI2DAT2 (in) "VI2 接口的时钟", P3 VI2DAT1 (in) "VI2 接口的时钟", P4 VI2DAT0 (in) "VI2 接口的时钟", R1 VI2DAT5 (in) "VI2 接口的时钟", R2 VI2DAT4 (in) "VI2 接口的时钟", R3 VI2CK  (in) "VI2 接口的时钟", T1 VI2DAT7 (in) "VI2 接口的时钟", T2 VI2DAT6 (in) "VI2 接口的时钟", T3 VI3DAT1 (io) "VI3 接口的数据DAT0", T4 VI3DAT0 (io) "VI3 接口的数据DAT0", U1 VI3DAT2 (io) "VI3 接口的数据DAT0", U2 VI3DAT3 (io) "VI3 接口的数据DAT0", U3 VI3CK (in) "VI3 接口的时钟", U4 VI3DAT4 (io) "VI3 接口的数据DAT0", V1 VI3DAT5 (io) "VI3 接口的数据DAT0", V2 VI3DAT6 (io) "VI3 接口的数据DAT0", V3 VI3DAT7 (io) "VI3 接口的数据DAT0"
part H pins: AA1 DACVGA0R "DAC0 的Red 信号或者一路标  清的CVBS 输出，为模拟信  号", AA3 COMPDAC1 "DAC1 的补偿管脚，外接补偿电  容", AA4 VGAHS, AA5 MDIO  (out) "MDIO 接口的输入/ 输出信号", AA6 ETXCK (in) "ETH 发送侧时钟输入", AA7 ECRS  (io) "ETH 载波侦听信号", AA8 ERXD2 (in) "ETH 接收数据DAT", AB1 DACVGA1R "DAC1 的Red 信号，为模拟信  号", AB4 VGAVS, AB5 ETXD0 (out) "ETH 发送数据DAT", AB6 ETXD3 (out) "ETH 发送数据DAT", AB7 ECOL (io) "ETH 碰撞指示信号", AB8 ERXD1 (in) "ETH 接收数据DAT", AC2 DACVGA1G "DAC1 的Green信号，为模拟信  号", AC3 DACVGA1B "DAC1 的Blue 信号输出，为模  拟信号", AC5 ETXD1 (out) "ETH 发送数据DAT", AC6 ERXDV (in) "ETH 接收数据有效", AC7 ETXEN (out) "ETH 发送使能信号", AC8 ERXD0 (in) "ETH 接收数据DAT", B1 SIO0XFS (io) "SIO 接口0 发送侧帧同步信号", B2 SIO0DI (in) "SIO 接口0 数据输入。如不使  用，该管脚可悬空", C1 ACKOUT (io) "SIO 接口的可编程输出时钟，用  于支持低端DAC器件", C2 SIO0XCK (io) "SIO 接口0 发送侧位流时钟", C3 SIO0RCK (io) "SIO 接口0 接收侧位流时钟", D1 SIO1RFS (io) "SIO 接口1 接收侧帧同步信号", D2 SIO1DI (in) "SIO 接口1 数据输入。如不使  用，该管脚可悬空", D3 SIO0RFS (io) "SIO 接口0 接收侧帧同步信号", D4 SIO0DO (out) "SIO 接口0 数据输出", E4 SIO1RCK (io) "SIO 接口1 数SIO 接口1 接收侧位流时钟", W1 VREFINDAC0  "DAC0 的参考电压输入", W2 COMPDAC0  "DAC0 的补偿管脚，外接补偿电  容", Y2 RSETDAC0 "DAC0 的扩展电阻管脚，外接扩  展电阻", Y3 RSETDAC1 "DAC1 的扩展电阻管脚，外接扩  展电阻", Y4 VREFINDAC1  "DAC1 的参考电压输入", Y5 MDCK  (out) "MDIO 接口时钟输出", Y6 ETXD2 (out) "ETH 发送数据DAT", Y7 ERXCK (in) "ETH 接收侧时钟输入", Y8 ERXD3 (in) "ETH 接收数据DAT"
part B text: HI3515_电源; DAC; OTHER I/O V33; PLL; DDR2; CORE; STATA; USB
part C text: HI3515_电源; DAC; PLL; USB; 其他数字地
part D text: HI3515_DDR
part F text: HI3515_EBI
part G text: HI3515_VI&VO
part H text: HI3515_ETH&SIO&DAC

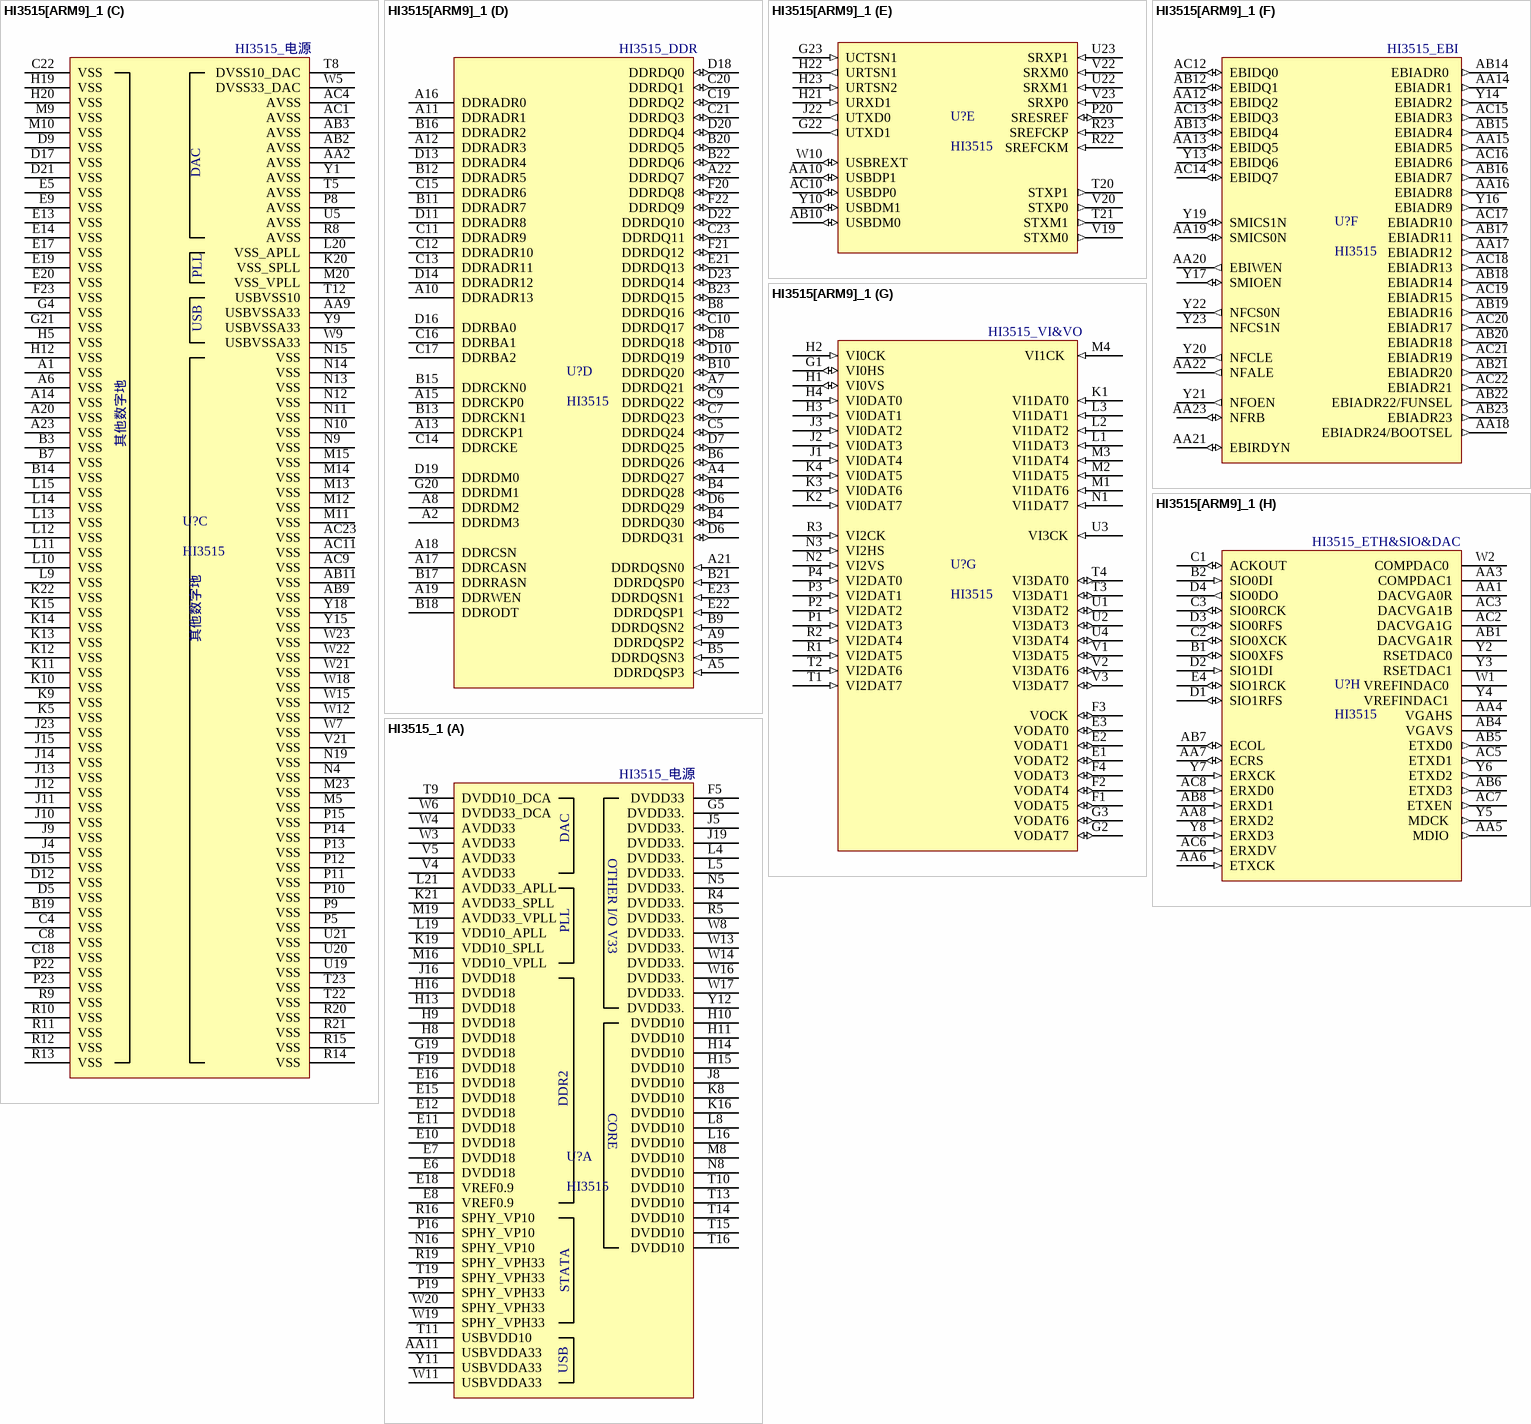
[diagram p6: symbols HI3515[ARM9]_1 to HI3515_1]